# Altium schematic symbol library alientek_sch_lib.SchLib: 379 symbols (part 3 of 3)
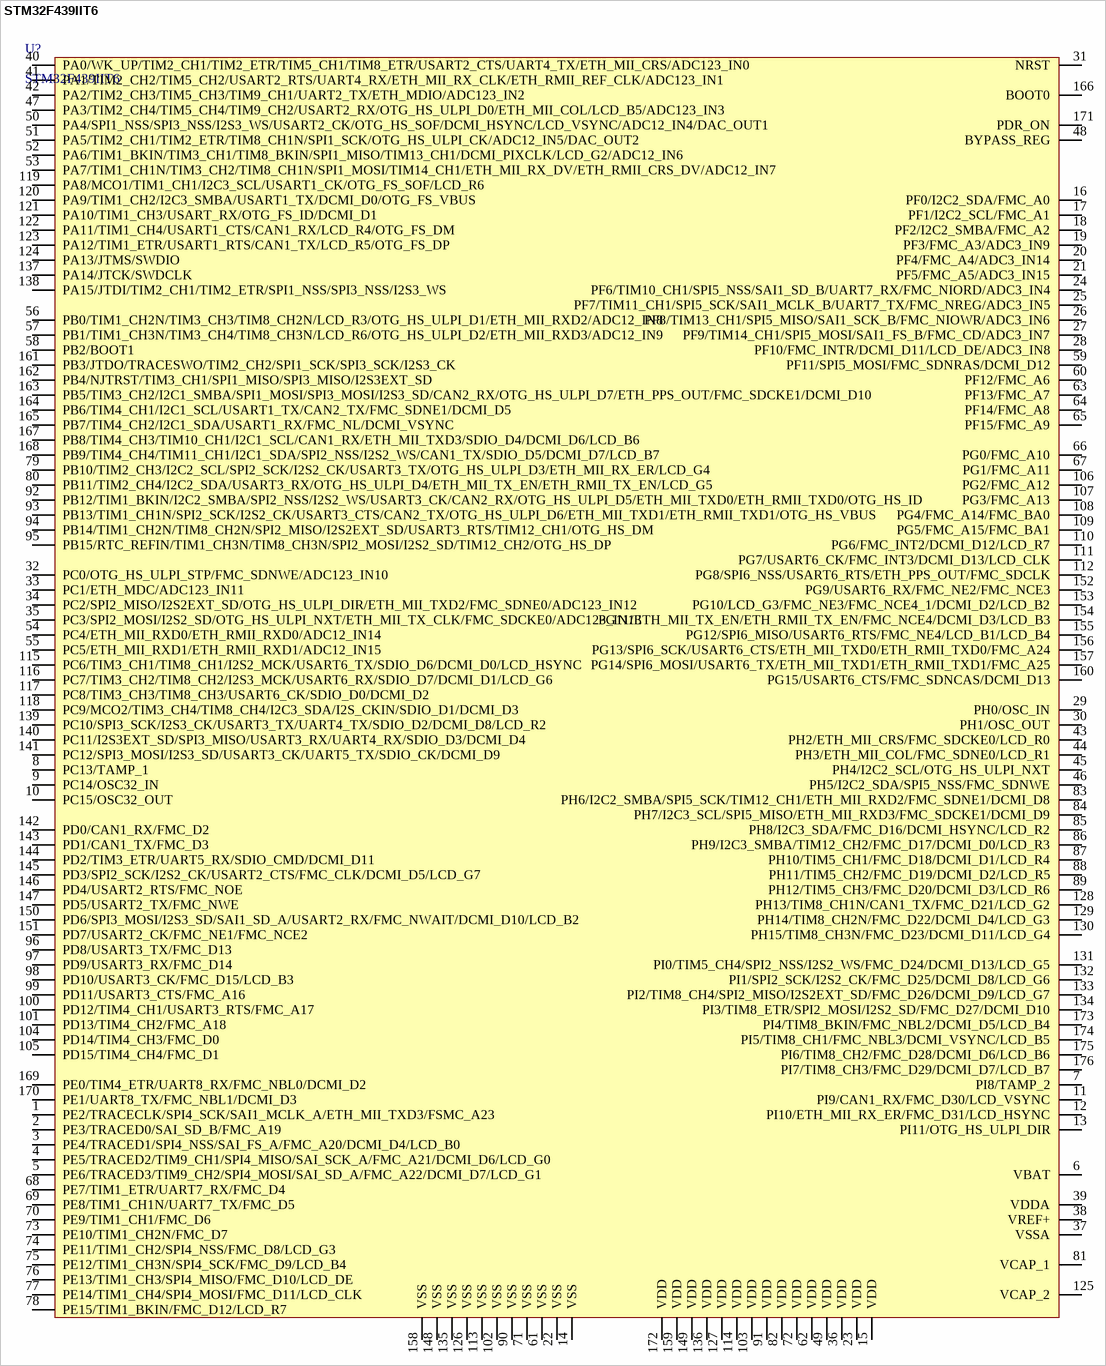
[diagram p22: symbol STM32F439IIT6]

## STM32F439IIT6
designator U?
footprint LQFP176 (TSQFP, 176-Leads, Body 26.1x26.1mm (max), Pitch 0.50mm, IPC Medium Density)
pins: 1 PE2/TRACECLK/SPI4_SCK/SAI1_MCLK_A/ETH_MII_TXD3/FSMC_A23, 2 PE3/TRACED0/SAI_SD_B/FMC_A19, 3 PE4/TRACED1/SPI4_NSS/SAI_FS_A/FMC_A20/DCMI_D4/LCD_B0, 4 PE5/TRACED2/TIM9_CH1/SPI4_MISO/SAI_SCK_A/FMC_A21/DCMI_D6/LCD_G0, 5 PE6/TRACED3/TIM9_CH2/SPI4_MOSI/SAI_SD_A/FMC_A22/DCMI_D7/LCD_G1, 6 VBAT, 7 PI8/TAMP_2, 8 PC13/TAMP_1, 9 PC14/OSC32_IN, 10 PC15/OSC32_OUT, 11 PI9/CAN1_RX/FMC_D30/LCD_VSYNC, 12 PI10/ETH_MII_RX_ER/FMC_D31/LCD_HSYNC, 13 PI11/OTG_HS_ULPI_DIR, 14 VSS, 15 VDD, 16 PF0/I2C2_SDA/FMC_A0, 17 PF1/I2C2_SCL/FMC_A1, 18 PF2/I2C2_SMBA/FMC_A2, 19 PF3/FMC_A3/ADC3_IN9, 20 PF4/FMC_A4/ADC3_IN14, 21 PF5/FMC_A5/ADC3_IN15, 22 VSS, 23 VDD, 24 PF6/TIM10_CH1/SPI5_NSS/SAI1_SD_B/UART7_RX/FMC_NIORD/ADC3_IN4, 25 PF7/TIM11_CH1/SPI5_SCK/SAI1_MCLK_B/UART7_TX/FMC_NREG/ADC3_IN5, 26 PF8/TIM13_CH1/SPI5_MISO/SAI1_SCK_B/FMC_NIOWR/ADC3_IN6, 27 PF9/TIM14_CH1/SPI5_MOSI/SAI1_FS_B/FMC_CD/ADC3_IN7, 28 PF10/FMC_INTR/DCMI_D11/LCD_DE/ADC3_IN8, 29 PH0/OSC_IN, 30 PH1/OSC_OUT, 31 NRST, 32 PC0/OTG_HS_ULPI_STP/FMC_SDNWE/ADC123_IN10, 33 PC1/ETH_MDC/ADC123_IN11, 34 PC2/SPI2_MISO/I2S2EXT_SD/OTG_HS_ULPI_DIR/ETH_MII_TXD2/FMC_SDNE0/ADC123_IN12, 35 PC3/SPI2_MOSI/I2S2_SD/OTG_HS_ULPI_NXT/ETH_MII_TX_CLK/FMC_SDCKE0/ADC123_IN13, 36 VDD, 37 VSSA, 38 VREF+, 39 VDDA, 40 PA0/WK_UP/TIM2_CH1/TIM2_ETR/TIM5_CH1/TIM8_ETR/USART2_CTS/UART4_TX/ETH_MII_CRS/ADC123_IN0, 41 PA1/TIM2_CH2/TIM5_CH2/USART2_RTS/UART4_RX/ETH_MII_RX_CLK/ETH_RMII_REF_CLK/ADC123_IN1, 42 PA2/TIM2_CH3/TIM5_CH3/TIM9_CH1/UART2_TX/ETH_MDIO/ADC123_IN2, 43 PH2/ETH_MII_CRS/FMC_SDCKE0/LCD_R0, 44 PH3/ETH_MII_COL/FMC_SDNE0/LCD_R1, 45 PH4/I2C2_SCL/OTG_HS_ULPI_NXT, 46 PH5/I2C2_SDA/SPI5_NSS/FMC_SDNWE, 47 PA3/TIM2_CH4/TIM5_CH4/TIM9_CH2/USART2_RX/OTG_HS_ULPI_D0/ETH_MII_COL/LCD_B5/ADC123_IN3, 48 BYPASS_REG, 49 VDD, 50 PA4/SPI1_NSS/SPI3_NSS/I2S3_WS/USART2_CK/OTG_HS_SOF/DCMI_HSYNC/LCD_VSYNC/ADC12_IN4/DAC_OUT1, 51 PA5/TIM2_CH1/TIM2_ETR/TIM8_CH1N/SPI1_SCK/OTG_HS_ULPI_CK/ADC12_IN5/DAC_OUT2, 52 PA6/TIM1_BKIN/TIM3_CH1/TIM8_BKIN/SPI1_MISO/TIM13_CH1/DCMI_PIXCLK/LCD_G2/ADC12_IN6, 53 PA7/TIM1_CH1N/TIM3_CH2/TIM8_CH1N/SPI1_MOSI/TIM14_CH1/ETH_MII_RX_DV/ETH_RMII_CRS_DV/ADC12_IN7, 54 PC4/ETH_MII_RXD0/ETH_RMII_RXD0/ADC12_IN14, 55 PC5/ETH_MII_RXD1/ETH_RMII_RXD1/ADC12_IN15, 56 PB0/TIM1_CH2N/TIM3_CH3/TIM8_CH2N/LCD_R3/OTG_HS_ULPI_D1/ETH_MII_RXD2/ADC12_IN8, 57 PB1/TIM1_CH3N/TIM3_CH4/TIM8_CH3N/LCD_R6/OTG_HS_ULPI_D2/ETH_MII_RXD3/ADC12_IN9, 58 PB2/BOOT1, 59 PF11/SPI5_MOSI/FMC_SDNRAS/DCMI_D12, 60 PF12/FMC_A6, 61 VSS, 62 VDD, 63 PF13/FMC_A7, 64 PF14/FMC_A8, 65 PF15/FMC_A9, 66 PG0/FMC_A10, 67 PG1/FMC_A11, 68 PE7/TIM1_ETR/UART7_RX/FMC_D4, 69 PE8/TIM1_CH1N/UART7_TX/FMC_D5, 70 PE9/TIM1_CH1/FMC_D6, 71 VSS, 72 VDD, 73 PE10/TIM1_CH2N/FMC_D7, 74 PE11/TIM1_CH2/SPI4_NSS/FMC_D8/LCD_G3, 75 PE12/TIM1_CH3N/SPI4_SCK/FMC_D9/LCD_B4, 76 PE13/TIM1_CH3/SPI4_MISO/FMC_D10/LCD_DE, 77 PE14/TIM1_CH4/SPI4_MOSI/FMC_D11/LCD_CLK, 78 PE15/TIM1_BKIN/FMC_D12/LCD_R7, 79 PB10/TIM2_CH3/I2C2_SCL/SPI2_SCK/I2S2_CK/USART3_TX/OTG_HS_ULPI_D3/ETH_MII_RX_ER/LCD_G4, 80 PB11/TIM2_CH4/I2C2_SDA/USART3_RX/OTG_HS_ULPI_D4/ETH_MII_TX_EN/ETH_RMII_TX_EN/LCD_G5, 81 VCAP_1, 82 VDD, 83 PH6/I2C2_SMBA/SPI5_SCK/TIM12_CH1/ETH_MII_RXD2/FMC_SDNE1/DCMI_D8, 84 PH7/I2C3_SCL/SPI5_MISO/ETH_MII_RXD3/FMC_SDCKE1/DCMI_D9, 85 PH8/I2C3_SDA/FMC_D16/DCMI_HSYNC/LCD_R2, 86 PH9/I2C3_SMBA/TIM12_CH2/FMC_D17/DCMI_D0/LCD_R3, 87 PH10/TIM5_CH1/FMC_D18/DCMI_D1/LCD_R4, 88 PH11/TIM5_CH2/FMC_D19/DCMI_D2/LCD_R5, 89 PH12/TIM5_CH3/FMC_D20/DCMI_D3/LCD_R6, 90 VSS, 91 VDD, 92 PB12/TIM1_BKIN/I2C2_SMBA/SPI2_NSS/I2S2_WS/USART3_CK/CAN2_RX/OTG_HS_ULPI_D5/ETH_MII_TXD0/ETH_RMII_TXD0/OTG_HS_ID, 93 PB13/TIM1_CH1N/SPI2_SCK/I2S2_CK/USART3_CTS/CAN2_TX/OTG_HS_ULPI_D6/ETH_MII_TXD1/ETH_RMII_TXD1/OTG_HS_VBUS, 94 PB14/TIM1_CH2N/TIM8_CH2N/SPI2_MISO/I2S2EXT_SD/USART3_RTS/TIM12_CH1/OTG_HS_DM, 95 PB15/RTC_REFIN/TIM1_CH3N/TIM8_CH3N/SPI2_MOSI/I2S2_SD/TIM12_CH2/OTG_HS_DP, 96 PD8/USART3_TX/FMC_D13, 97 PD9/USART3_RX/FMC_D14, 98 PD10/USART3_CK/FMC_D15/LCD_B3, 99 PD11/USART3_CTS/FMC_A16, 100 PD12/TIM4_CH1/USART3_RTS/FMC_A17, 101 PD13/TIM4_CH2/FMC_A18, 102 VSS, 103 VDD, 104 PD14/TIM4_CH3/FMC_D0, 105 PD15/TIM4_CH4/FMC_D1, 106 PG2/FMC_A12, 107 PG3/FMC_A13, 108 PG4/FMC_A14/FMC_BA0, 109 PG5/FMC_A15/FMC_BA1, 110 PG6/FMC_INT2/DCMI_D12/LCD_R7, 111 PG7/USART6_CK/FMC_INT3/DCMI_D13/LCD_CLK, 112 PG8/SPI6_NSS/USART6_RTS/ETH_PPS_OUT/FMC_SDCLK, 113 VSS, 114 VDD, 115 PC6/TIM3_CH1/TIM8_CH1/I2S2_MCK/USART6_TX/SDIO_D6/DCMI_D0/LCD_HSYNC, 116 PC7/TIM3_CH2/TIM8_CH2/I2S3_MCK/USART6_RX/SDIO_D7/DCMI_D1/LCD_G6, 117 PC8/TIM3_CH3/TIM8_CH3/USART6_CK/SDIO_D0/DCMI_D2, 118 PC9/MCO2/TIM3_CH4/TIM8_CH4/I2C3_SDA/I2S_CKIN/SDIO_D1/DCMI_D3, 119 PA8/MCO1/TIM1_CH1/I2C3_SCL/USART1_CK/OTG_FS_SOF/LCD_R6, 120 PA9/TIM1_CH2/I2C3_SMBA/USART1_TX/DCMI_D0/OTG_FS_VBUS, 121 PA10/TIM1_CH3/USART_RX/OTG_FS_ID/DCMI_D1, 122 PA11/TIM1_CH4/USART1_CTS/CAN1_RX/LCD_R4/OTG_FS_DM, 123 PA12/TIM1_ETR/USART1_RTS/CAN1_TX/LCD_R5/OTG_FS_DP, 124 PA13/JTMS/SWDIO, 125 VCAP_2, 126 VSS, 127 VDD, 128 PH13/TIM8_CH1N/CAN1_TX/FMC_D21/LCD_G2, 129 PH14/TIM8_CH2N/FMC_D22/DCMI_D4/LCD_G3, 130 PH15/TIM8_CH3N/FMC_D23/DCMI_D11/LCD_G4, 131 PI0/TIM5_CH4/SPI2_NSS/I2S2_WS/FMC_D24/DCMI_D13/LCD_G5, 132 PI1/SPI2_SCK/I2S2_CK/FMC_D25/DCMI_D8/LCD_G6, 133 PI2/TIM8_CH4/SPI2_MISO/I2S2EXT_SD/FMC_D26/DCMI_D9/LCD_G7, 134 PI3/TIM8_ETR/SPI2_MOSI/I2S2_SD/FMC_D27/DCMI_D10, 135 VSS, 136 VDD, 137 PA14/JTCK/SWDCLK, 138 PA15/JTDI/TIM2_CH1/TIM2_ETR/SPI1_NSS/SPI3_NSS/I2S3_WS, 139 PC10/SPI3_SCK/I2S3_CK/USART3_TX/UART4_TX/SDIO_D2/DCMI_D8/LCD_R2, 140 PC11/I2S3EXT_SD/SPI3_MISO/USART3_RX/UART4_RX/SDIO_D3/DCMI_D4, 141 PC12/SPI3_MOSI/I2S3_SD/USART3_CK/UART5_TX/SDIO_CK/DCMI_D9, 142 PD0/CAN1_RX/FMC_D2, 143 PD1/CAN1_TX/FMC_D3, 144 PD2/TIM3_ETR/UART5_RX/SDIO_CMD/DCMI_D11, 145 PD3/SPI2_SCK/I2S2_CK/USART2_CTS/FMC_CLK/DCMI_D5/LCD_G7, 146 PD4/USART2_RTS/FMC_NOE, 147 PD5/USART2_TX/FMC_NWE, 148 VSS, 149 VDD, 150 PD6/SPI3_MOSI/I2S3_SD/SAI1_SD_A/USART2_RX/FMC_NWAIT/DCMI_D10/LCD_B2, 151 PD7/USART2_CK/FMC_NE1/FMC_NCE2, 152 PG9/USART6_RX/FMC_NE2/FMC_NCE3, 153 PG10/LCD_G3/FMC_NE3/FMC_NCE4_1/DCMI_D2/LCD_B2, 154 PG11/ETH_MII_TX_EN/ETH_RMII_TX_EN/FMC_NCE4/DCMI_D3/LCD_B3, 155 PG12/SPI6_MISO/USART6_RTS/FMC_NE4/LCD_B1/LCD_B4, 156 PG13/SPI6_SCK/USART6_CTS/ETH_MII_TXD0/ETH_RMII_TXD0/FMC_A24, 157 PG14/SPI6_MOSI/USART6_TX/ETH_MII_TXD1/ETH_RMII_TXD1/FMC_A25, 158 VSS, 159 VDD, 160 PG15/USART6_CTS/FMC_SDNCAS/DCMI_D13, 161 PB3/JTDO/TRACESWO/TIM2_CH2/SPI1_SCK/SPI3_SCK/I2S3_CK, 162 PB4/NJTRST/TIM3_CH1/SPI1_MISO/SPI3_MISO/I2S3EXT_SD, 163 PB5/TIM3_CH2/I2C1_SMBA/SPI1_MOSI/SPI3_MOSI/I2S3_SD/CAN2_RX/OTG_HS_ULPI_D7/ETH_PPS_OUT/FMC_SDCKE1/DCMI_D10, 164 PB6/TIM4_CH1/I2C1_SCL/USART1_TX/CAN2_TX/FMC_SDNE1/DCMI_D5, 165 PB7/TIM4_CH2/I2C1_SDA/USART1_RX/FMC_NL/DCMI_VSYNC, 166 BOOT0, 167 PB8/TIM4_CH3/TIM10_CH1/I2C1_SCL/CAN1_RX/ETH_MII_TXD3/SDIO_D4/DCMI_D6/LCD_B6, 168 PB9/TIM4_CH4/TIM11_CH1/I2C1_SDA/SPI2_NSS/I2S2_WS/CAN1_TX/SDIO_D5/DCMI_D7/LCD_B7, 169 PE0/TIM4_ETR/UART8_RX/FMC_NBL0/DCMI_D2, 170 PE1/UART8_TX/FMC_NBL1/DCMI_D3, 171 PDR_ON, 172 VDD, 173 PI4/TIM8_BKIN/FMC_NBL2/DCMI_D5/LCD_B4, 174 PI5/TIM8_CH1/FMC_NBL3/DCMI_VSYNC/LCD_B5, 175 PI6/TIM8_CH2/FMC_D28/DCMI_D6/LCD_B6, 176 PI7/TIM8_CH3/FMC_D29/DCMI_D7/LCD_B7

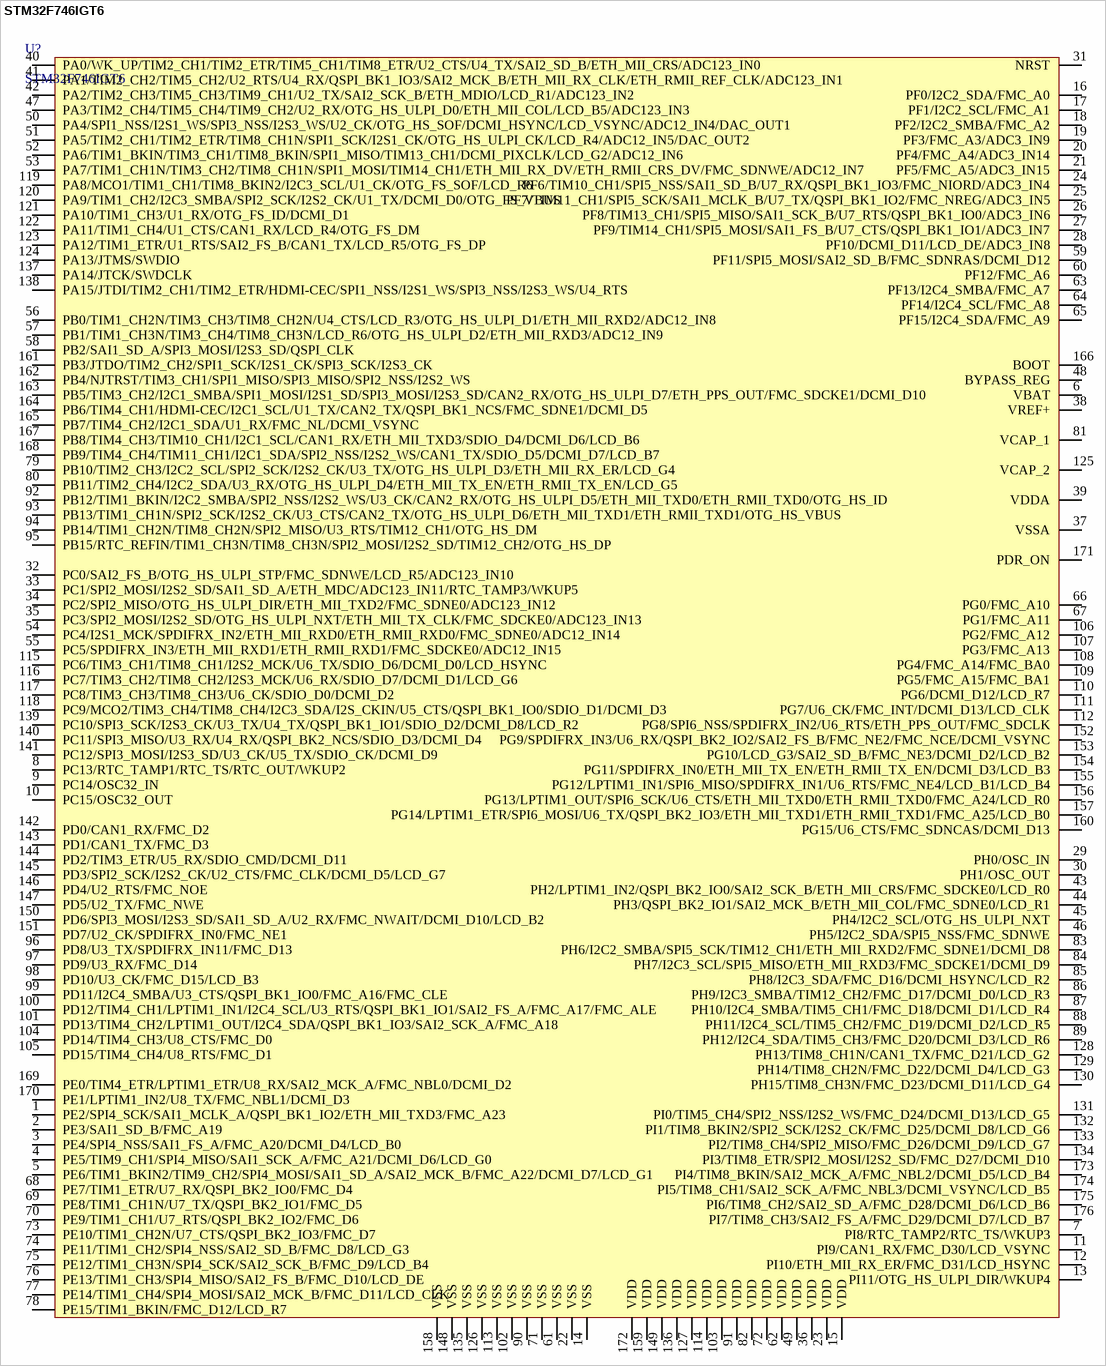
[diagram p16: symbol STM32F746IGT6]

## STM32F746IGT6
designator U?
footprint LQFP176 (TSQFP, 176-Leads, Body 26.1x26.1mm (max), Pitch 0.50mm, IPC Medium Density)
pins: 1 PE2/SPI4_SCK/SAI1_MCLK_A/QSPI_BK1_IO2/ETH_MII_TXD3/FMC_A23, 2 PE3/SAI1_SD_B/FMC_A19, 3 PE4/SPI4_NSS/SAI1_FS_A/FMC_A20/DCMI_D4/LCD_B0, 4 PE5/TIM9_CH1/SPI4_MISO/SAI1_SCK_A/FMC_A21/DCMI_D6/LCD_G0, 5 PE6/TIM1_BKIN2/TIM9_CH2/SPI4_MOSI/SAI1_SD_A/SAI2_MCK_B/FMC_A22/DCMI_D7/LCD_G1, 6 VBAT, 7 PI8/RTC_TAMP2/RTC_TS/WKUP3, 8 PC13/RTC_TAMP1/RTC_TS/RTC_OUT/WKUP2, 9 PC14/OSC32_IN, 10 PC15/OSC32_OUT, 11 PI9/CAN1_RX/FMC_D30/LCD_VSYNC, 12 PI10/ETH_MII_RX_ER/FMC_D31/LCD_HSYNC, 13 PI11/OTG_HS_ULPI_DIR/WKUP4, 14 VSS, 15 VDD, 16 PF0/I2C2_SDA/FMC_A0, 17 PF1/I2C2_SCL/FMC_A1, 18 PF2/I2C2_SMBA/FMC_A2, 19 PF3/FMC_A3/ADC3_IN9, 20 PF4/FMC_A4/ADC3_IN14, 21 PF5/FMC_A5/ADC3_IN15, 22 VSS, 23 VDD, 24 PF6/TIM10_CH1/SPI5_NSS/SAI1_SD_B/U7_RX/QSPI_BK1_IO3/FMC_NIORD/ADC3_IN4, 25 PF7/TIM11_CH1/SPI5_SCK/SAI1_MCLK_B/U7_TX/QSPI_BK1_IO2/FMC_NREG/ADC3_IN5, 26 PF8/TIM13_CH1/SPI5_MISO/SAI1_SCK_B/U7_RTS/QSPI_BK1_IO0/ADC3_IN6, 27 PF9/TIM14_CH1/SPI5_MOSI/SAI1_FS_B/U7_CTS/QSPI_BK1_IO1/ADC3_IN7, 28 PF10/DCMI_D11/LCD_DE/ADC3_IN8, 29 PH0/OSC_IN, 30 PH1/OSC_OUT, 31 NRST, 32 PC0/SAI2_FS_B/OTG_HS_ULPI_STP/FMC_SDNWE/LCD_R5/ADC123_IN10, 33 PC1/SPI2_MOSI/I2S2_SD/SAI1_SD_A/ETH_MDC/ADC123_IN11/RTC_TAMP3/WKUP5, 34 PC2/SPI2_MISO/OTG_HS_ULPI_DIR/ETH_MII_TXD2/FMC_SDNE0/ADC123_IN12, 35 PC3/SPI2_MOSI/I2S2_SD/OTG_HS_ULPI_NXT/ETH_MII_TX_CLK/FMC_SDCKE0/ADC123_IN13, 36 VDD, 37 VSSA, 38 VREF+, 39 VDDA, 40 PA0/WK_UP/TIM2_CH1/TIM2_ETR/TIM5_CH1/TIM8_ETR/U2_CTS/U4_TX/SAI2_SD_B/ETH_MII_CRS/ADC123_IN0, 41 PA1/TIM2_CH2/TIM5_CH2/U2_RTS/U4_RX/QSPI_BK1_IO3/SAI2_MCK_B/ETH_MII_RX_CLK/ETH_RMII_REF_CLK/ADC123_IN1, 42 PA2/TIM2_CH3/TIM5_CH3/TIM9_CH1/U2_TX/SAI2_SCK_B/ETH_MDIO/LCD_R1/ADC123_IN2, 43 PH2/LPTIM1_IN2/QSPI_BK2_IO0/SAI2_SCK_B/ETH_MII_CRS/FMC_SDCKE0/LCD_R0, 44 PH3/QSPI_BK2_IO1/SAI2_MCK_B/ETH_MII_COL/FMC_SDNE0/LCD_R1, 45 PH4/I2C2_SCL/OTG_HS_ULPI_NXT, 46 PH5/I2C2_SDA/SPI5_NSS/FMC_SDNWE, 47 PA3/TIM2_CH4/TIM5_CH4/TIM9_CH2/U2_RX/OTG_HS_ULPI_D0/ETH_MII_COL/LCD_B5/ADC123_IN3, 48 BYPASS_REG, 49 VDD, 50 PA4/SPI1_NSS/I2S1_WS/SPI3_NSS/I2S3_WS/U2_CK/OTG_HS_SOF/DCMI_HSYNC/LCD_VSYNC/ADC12_IN4/DAC_OUT1, 51 PA5/TIM2_CH1/TIM2_ETR/TIM8_CH1N/SPI1_SCK/I2S1_CK/OTG_HS_ULPI_CK/LCD_R4/ADC12_IN5/DAC_OUT2, 52 PA6/TIM1_BKIN/TIM3_CH1/TIM8_BKIN/SPI1_MISO/TIM13_CH1/DCMI_PIXCLK/LCD_G2/ADC12_IN6, 53 PA7/TIM1_CH1N/TIM3_CH2/TIM8_CH1N/SPI1_MOSI/TIM14_CH1/ETH_MII_RX_DV/ETH_RMII_CRS_DV/FMC_SDNWE/ADC12_IN7, 54 PC4/I2S1_MCK/SPDIFRX_IN2/ETH_MII_RXD0/ETH_RMII_RXD0/FMC_SDNE0/ADC12_IN14, 55 PC5/SPDIFRX_IN3/ETH_MII_RXD1/ETH_RMII_RXD1/FMC_SDCKE0/ADC12_IN15, 56 PB0/TIM1_CH2N/TIM3_CH3/TIM8_CH2N/U4_CTS/LCD_R3/OTG_HS_ULPI_D1/ETH_MII_RXD2/ADC12_IN8, 57 PB1/TIM1_CH3N/TIM3_CH4/TIM8_CH3N/LCD_R6/OTG_HS_ULPI_D2/ETH_MII_RXD3/ADC12_IN9, 58 PB2/SAI1_SD_A/SPI3_MOSI/I2S3_SD/QSPI_CLK, 59 PF11/SPI5_MOSI/SAI2_SD_B/FMC_SDNRAS/DCMI_D12, 60 PF12/FMC_A6, 61 VSS, 62 VDD, 63 PF13/I2C4_SMBA/FMC_A7, 64 PF14/I2C4_SCL/FMC_A8, 65 PF15/I2C4_SDA/FMC_A9, 66 PG0/FMC_A10, 67 PG1/FMC_A11, 68 PE7/TIM1_ETR/U7_RX/QSPI_BK2_IO0/FMC_D4, 69 PE8/TIM1_CH1N/U7_TX/QSPI_BK2_IO1/FMC_D5, 70 PE9/TIM1_CH1/U7_RTS/QSPI_BK2_IO2/FMC_D6, 71 VSS, 72 VDD, 73 PE10/TIM1_CH2N/U7_CTS/QSPI_BK2_IO3/FMC_D7, 74 PE11/TIM1_CH2/SPI4_NSS/SAI2_SD_B/FMC_D8/LCD_G3, 75 PE12/TIM1_CH3N/SPI4_SCK/SAI2_SCK_B/FMC_D9/LCD_B4, 76 PE13/TIM1_CH3/SPI4_MISO/SAI2_FS_B/FMC_D10/LCD_DE, 77 PE14/TIM1_CH4/SPI4_MOSI/SAI2_MCK_B/FMC_D11/LCD_CLK, 78 PE15/TIM1_BKIN/FMC_D12/LCD_R7, 79 PB10/TIM2_CH3/I2C2_SCL/SPI2_SCK/I2S2_CK/U3_TX/OTG_HS_ULPI_D3/ETH_MII_RX_ER/LCD_G4, 80 PB11/TIM2_CH4/I2C2_SDA/U3_RX/OTG_HS_ULPI_D4/ETH_MII_TX_EN/ETH_RMII_TX_EN/LCD_G5, 81 VCAP_1, 82 VDD, 83 PH6/I2C2_SMBA/SPI5_SCK/TIM12_CH1/ETH_MII_RXD2/FMC_SDNE1/DCMI_D8, 84 PH7/I2C3_SCL/SPI5_MISO/ETH_MII_RXD3/FMC_SDCKE1/DCMI_D9, 85 PH8/I2C3_SDA/FMC_D16/DCMI_HSYNC/LCD_R2, 86 PH9/I2C3_SMBA/TIM12_CH2/FMC_D17/DCMI_D0/LCD_R3, 87 PH10/I2C4_SMBA/TIM5_CH1/FMC_D18/DCMI_D1/LCD_R4, 88 PH11/I2C4_SCL/TIM5_CH2/FMC_D19/DCMI_D2/LCD_R5, 89 PH12/I2C4_SDA/TIM5_CH3/FMC_D20/DCMI_D3/LCD_R6, 90 VSS, 91 VDD, 92 PB12/TIM1_BKIN/I2C2_SMBA/SPI2_NSS/I2S2_WS/U3_CK/CAN2_RX/OTG_HS_ULPI_D5/ETH_MII_TXD0/ETH_RMII_TXD0/OTG_HS_ID, 93 PB13/TIM1_CH1N/SPI2_SCK/I2S2_CK/U3_CTS/CAN2_TX/OTG_HS_ULPI_D6/ETH_MII_TXD1/ETH_RMII_TXD1/OTG_HS_VBUS, 94 PB14/TIM1_CH2N/TIM8_CH2N/SPI2_MISO/U3_RTS/TIM12_CH1/OTG_HS_DM, 95 PB15/RTC_REFIN/TIM1_CH3N/TIM8_CH3N/SPI2_MOSI/I2S2_SD/TIM12_CH2/OTG_HS_DP, 96 PD8/U3_TX/SPDIFRX_IN11/FMC_D13, 97 PD9/U3_RX/FMC_D14, 98 PD10/U3_CK/FMC_D15/LCD_B3, 99 PD11/I2C4_SMBA/U3_CTS/QSPI_BK1_IO0/FMC_A16/FMC_CLE, 100 PD12/TIM4_CH1/LPTIM1_IN1/I2C4_SCL/U3_RTS/QSPI_BK1_IO1/SAI2_FS_A/FMC_A17/FMC_ALE, 101 PD13/TIM4_CH2/LPTIM1_OUT/I2C4_SDA/QSPI_BK1_IO3/SAI2_SCK_A/FMC_A18, 102 VSS, 103 VDD, 104 PD14/TIM4_CH3/U8_CTS/FMC_D0, 105 PD15/TIM4_CH4/U8_RTS/FMC_D1, 106 PG2/FMC_A12, 107 PG3/FMC_A13, 108 PG4/FMC_A14/FMC_BA0, 109 PG5/FMC_A15/FMC_BA1, 110 PG6/DCMI_D12/LCD_R7, 111 PG7/U6_CK/FMC_INT/DCMI_D13/LCD_CLK, 112 PG8/SPI6_NSS/SPDIFRX_IN2/U6_RTS/ETH_PPS_OUT/FMC_SDCLK, 113 VSS, 114 VDD, 115 PC6/TIM3_CH1/TIM8_CH1/I2S2_MCK/U6_TX/SDIO_D6/DCMI_D0/LCD_HSYNC, 116 PC7/TIM3_CH2/TIM8_CH2/I2S3_MCK/U6_RX/SDIO_D7/DCMI_D1/LCD_G6, 117 PC8/TIM3_CH3/TIM8_CH3/U6_CK/SDIO_D0/DCMI_D2, 118 PC9/MCO2/TIM3_CH4/TIM8_CH4/I2C3_SDA/I2S_CKIN/U5_CTS/QSPI_BK1_IO0/SDIO_D1/DCMI_D3, 119 PA8/MCO1/TIM1_CH1/TIM8_BKIN2/I2C3_SCL/U1_CK/OTG_FS_SOF/LCD_R6, 120 PA9/TIM1_CH2/I2C3_SMBA/SPI2_SCK/I2S2_CK/U1_TX/DCMI_D0/OTG_FS_VBUS, 121 PA10/TIM1_CH3/U1_RX/OTG_FS_ID/DCMI_D1, 122 PA11/TIM1_CH4/U1_CTS/CAN1_RX/LCD_R4/OTG_FS_DM, 123 PA12/TIM1_ETR/U1_RTS/SAI2_FS_B/CAN1_TX/LCD_R5/OTG_FS_DP, 124 PA13/JTMS/SWDIO, 125 VCAP_2, 126 VSS, 127 VDD, 128 PH13/TIM8_CH1N/CAN1_TX/FMC_D21/LCD_G2, 129 PH14/TIM8_CH2N/FMC_D22/DCMI_D4/LCD_G3, 130 PH15/TIM8_CH3N/FMC_D23/DCMI_D11/LCD_G4, 131 PI0/TIM5_CH4/SPI2_NSS/I2S2_WS/FMC_D24/DCMI_D13/LCD_G5, 132 PI1/TIM8_BKIN2/SPI2_SCK/I2S2_CK/FMC_D25/DCMI_D8/LCD_G6, 133 PI2/TIM8_CH4/SPI2_MISO/FMC_D26/DCMI_D9/LCD_G7, 134 PI3/TIM8_ETR/SPI2_MOSI/I2S2_SD/FMC_D27/DCMI_D10, 135 VSS, 136 VDD, 137 PA14/JTCK/SWDCLK, 138 PA15/JTDI/TIM2_CH1/TIM2_ETR/HDMI-CEC/SPI1_NSS/I2S1_WS/SPI3_NSS/I2S3_WS/U4_RTS, 139 PC10/SPI3_SCK/I2S3_CK/U3_TX/U4_TX/QSPI_BK1_IO1/SDIO_D2/DCMI_D8/LCD_R2, 140 PC11/SPI3_MISO/U3_RX/U4_RX/QSPI_BK2_NCS/SDIO_D3/DCMI_D4, 141 PC12/SPI3_MOSI/I2S3_SD/U3_CK/U5_TX/SDIO_CK/DCMI_D9, 142 PD0/CAN1_RX/FMC_D2, 143 PD1/CAN1_TX/FMC_D3, 144 PD2/TIM3_ETR/U5_RX/SDIO_CMD/DCMI_D11, 145 PD3/SPI2_SCK/I2S2_CK/U2_CTS/FMC_CLK/DCMI_D5/LCD_G7, 146 PD4/U2_RTS/FMC_NOE, 147 PD5/U2_TX/FMC_NWE, 148 VSS, 149 VDD, 150 PD6/SPI3_MOSI/I2S3_SD/SAI1_SD_A/U2_RX/FMC_NWAIT/DCMI_D10/LCD_B2, 151 PD7/U2_CK/SPDIFRX_IN0/FMC_NE1, 152 PG9/SPDIFRX_IN3/U6_RX/QSPI_BK2_IO2/SAI2_FS_B/FMC_NE2/FMC_NCE/DCMI_VSYNC, 153 PG10/LCD_G3/SAI2_SD_B/FMC_NE3/DCMI_D2/LCD_B2, 154 PG11/SPDIFRX_IN0/ETH_MII_TX_EN/ETH_RMII_TX_EN/DCMI_D3/LCD_B3, 155 PG12/LPTIM1_IN1/SPI6_MISO/SPDIFRX_IN1/U6_RTS/FMC_NE4/LCD_B1/LCD_B4, 156 PG13/LPTIM1_OUT/SPI6_SCK/U6_CTS/ETH_MII_TXD0/ETH_RMII_TXD0/FMC_A24/LCD_R0, 157 PG14/LPTIM1_ETR/SPI6_MOSI/U6_TX/QSPI_BK2_IO3/ETH_MII_TXD1/ETH_RMII_TXD1/FMC_A25/LCD_B0, 158 VSS, 159 VDD, 160 PG15/U6_CTS/FMC_SDNCAS/DCMI_D13, 161 PB3/JTDO/TIM2_CH2/SPI1_SCK/I2S1_CK/SPI3_SCK/I2S3_CK, 162 PB4/NJTRST/TIM3_CH1/SPI1_MISO/SPI3_MISO/SPI2_NSS/I2S2_WS, 163 PB5/TIM3_CH2/I2C1_SMBA/SPI1_MOSI/I2S1_SD/SPI3_MOSI/I2S3_SD/CAN2_RX/OTG_HS_ULPI_D7/ETH_PPS_OUT/FMC_SDCKE1/DCMI_D10, 164 PB6/TIM4_CH1/HDMI-CEC/I2C1_SCL/U1_TX/CAN2_TX/QSPI_BK1_NCS/FMC_SDNE1/DCMI_D5, 165 PB7/TIM4_CH2/I2C1_SDA/U1_RX/FMC_NL/DCMI_VSYNC, 166 BOOT, 167 PB8/TIM4_CH3/TIM10_CH1/I2C1_SCL/CAN1_RX/ETH_MII_TXD3/SDIO_D4/DCMI_D6/LCD_B6, 168 PB9/TIM4_CH4/TIM11_CH1/I2C1_SDA/SPI2_NSS/I2S2_WS/CAN1_TX/SDIO_D5/DCMI_D7/LCD_B7, 169 PE0/TIM4_ETR/LPTIM1_ETR/U8_RX/SAI2_MCK_A/FMC_NBL0/DCMI_D2, 170 PE1/LPTIM1_IN2/U8_TX/FMC_NBL1/DCMI_D3, 171 PDR_ON, 172 VDD, 173 PI4/TIM8_BKIN/SAI2_MCK_A/FMC_NBL2/DCMI_D5/LCD_B4, 174 PI5/TIM8_CH1/SAI2_SCK_A/FMC_NBL3/DCMI_VSYNC/LCD_B5, 175 PI6/TIM8_CH2/SAI2_SD_A/FMC_D28/DCMI_D6/LCD_B6, 176 PI7/TIM8_CH3/SAI2_FS_A/FMC_D29/DCMI_D7/LCD_B7

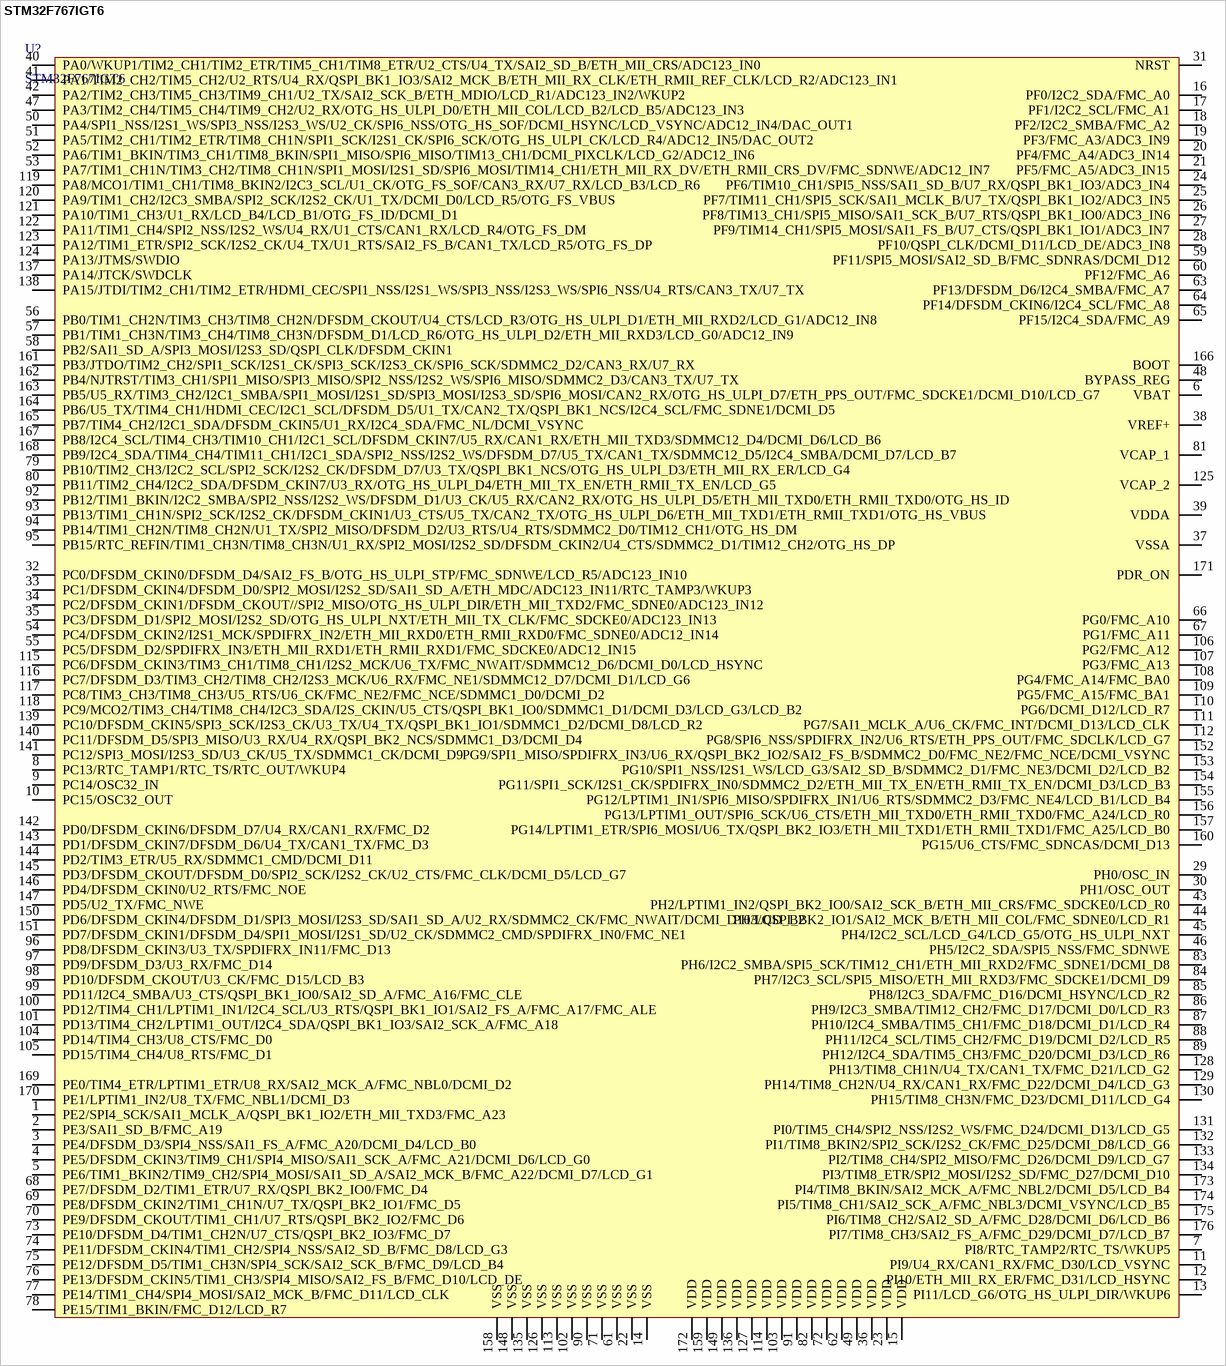
[diagram p17: symbol STM32F767IGT6]

## STM32F767IGT6
designator U?
footprint LQFP176 (TSQFP, 176-Leads, Body 26.1x26.1mm (max), Pitch 0.50mm, IPC Medium Density)
pins: 1 PE2/SPI4_SCK/SAI1_MCLK_A/QSPI_BK1_IO2/ETH_MII_TXD3/FMC_A23, 2 PE3/SAI1_SD_B/FMC_A19, 3 PE4/DFSDM_D3/SPI4_NSS/SAI1_FS_A/FMC_A20/DCMI_D4/LCD_B0, 4 PE5/DFSDM_CKIN3/TIM9_CH1/SPI4_MISO/SAI1_SCK_A/FMC_A21/DCMI_D6/LCD_G0, 5 PE6/TIM1_BKIN2/TIM9_CH2/SPI4_MOSI/SAI1_SD_A/SAI2_MCK_B/FMC_A22/DCMI_D7/LCD_G1, 6 VBAT, 7 PI8/RTC_TAMP2/RTC_TS/WKUP5, 8 PC13/RTC_TAMP1/RTC_TS/RTC_OUT/WKUP4, 9 PC14/OSC32_IN, 10 PC15/OSC32_OUT, 11 PI9/U4_RX/CAN1_RX/FMC_D30/LCD_VSYNC, 12 PI10/ETH_MII_RX_ER/FMC_D31/LCD_HSYNC, 13 PI11/LCD_G6/OTG_HS_ULPI_DIR/WKUP6, 14 VSS, 15 VDD, 16 PF0/I2C2_SDA/FMC_A0, 17 PF1/I2C2_SCL/FMC_A1, 18 PF2/I2C2_SMBA/FMC_A2, 19 PF3/FMC_A3/ADC3_IN9, 20 PF4/FMC_A4/ADC3_IN14, 21 PF5/FMC_A5/ADC3_IN15, 22 VSS, 23 VDD, 24 PF6/TIM10_CH1/SPI5_NSS/SAI1_SD_B/U7_RX/QSPI_BK1_IO3/ADC3_IN4, 25 PF7/TIM11_CH1/SPI5_SCK/SAI1_MCLK_B/U7_TX/QSPI_BK1_IO2/ADC3_IN5, 26 PF8/TIM13_CH1/SPI5_MISO/SAI1_SCK_B/U7_RTS/QSPI_BK1_IO0/ADC3_IN6, 27 PF9/TIM14_CH1/SPI5_MOSI/SAI1_FS_B/U7_CTS/QSPI_BK1_IO1/ADC3_IN7, 28 PF10/QSPI_CLK/DCMI_D11/LCD_DE/ADC3_IN8, 29 PH0/OSC_IN, 30 PH1/OSC_OUT, 31 NRST, 32 PC0/DFSDM_CKIN0/DFSDM_D4/SAI2_FS_B/OTG_HS_ULPI_STP/FMC_SDNWE/LCD_R5/ADC123_IN10, 33 PC1/DFSDM_CKIN4/DFSDM_D0/SPI2_MOSI/I2S2_SD/SAI1_SD_A/ETH_MDC/ADC123_IN11/RTC_TAMP3/WKUP3, 34 PC2/DFSDM_CKIN1/DFSDM_CKOUT//SPI2_MISO/OTG_HS_ULPI_DIR/ETH_MII_TXD2/FMC_SDNE0/ADC123_IN12, 35 PC3/DFSDM_D1/SPI2_MOSI/I2S2_SD/OTG_HS_ULPI_NXT/ETH_MII_TX_CLK/FMC_SDCKE0/ADC123_IN13, 36 VDD, 37 VSSA, 38 VREF+, 39 VDDA, 40 PA0/WKUP1/TIM2_CH1/TIM2_ETR/TIM5_CH1/TIM8_ETR/U2_CTS/U4_TX/SAI2_SD_B/ETH_MII_CRS/ADC123_IN0, 41 PA1/TIM2_CH2/TIM5_CH2/U2_RTS/U4_RX/QSPI_BK1_IO3/SAI2_MCK_B/ETH_MII_RX_CLK/ETH_RMII_REF_CLK/LCD_R2/ADC123_IN1, 42 PA2/TIM2_CH3/TIM5_CH3/TIM9_CH1/U2_TX/SAI2_SCK_B/ETH_MDIO/LCD_R1/ADC123_IN2/WKUP2, 43 PH2/LPTIM1_IN2/QSPI_BK2_IO0/SAI2_SCK_B/ETH_MII_CRS/FMC_SDCKE0/LCD_R0, 44 PH3/QSPI_BK2_IO1/SAI2_MCK_B/ETH_MII_COL/FMC_SDNE0/LCD_R1, 45 PH4/I2C2_SCL/LCD_G4/LCD_G5/OTG_HS_ULPI_NXT, 46 PH5/I2C2_SDA/SPI5_NSS/FMC_SDNWE, 47 PA3/TIM2_CH4/TIM5_CH4/TIM9_CH2/U2_RX/OTG_HS_ULPI_D0/ETH_MII_COL/LCD_B2/LCD_B5/ADC123_IN3, 48 BYPASS_REG, 49 VDD, 50 PA4/SPI1_NSS/I2S1_WS/SPI3_NSS/I2S3_WS/U2_CK/SPI6_NSS/OTG_HS_SOF/DCMI_HSYNC/LCD_VSYNC/ADC12_IN4/DAC_OUT1, 51 PA5/TIM2_CH1/TIM2_ETR/TIM8_CH1N/SPI1_SCK/I2S1_CK/SPI6_SCK/OTG_HS_ULPI_CK/LCD_R4/ADC12_IN5/DAC_OUT2, 52 PA6/TIM1_BKIN/TIM3_CH1/TIM8_BKIN/SPI1_MISO/SPI6_MISO/TIM13_CH1/DCMI_PIXCLK/LCD_G2/ADC12_IN6, 53 PA7/TIM1_CH1N/TIM3_CH2/TIM8_CH1N/SPI1_MOSI/I2S1_SD/SPI6_MOSI/TIM14_CH1/ETH_MII_RX_DV/ETH_RMII_CRS_DV/FMC_SDNWE/ADC12_IN7, 54 PC4/DFSDM_CKIN2/I2S1_MCK/SPDIFRX_IN2/ETH_MII_RXD0/ETH_RMII_RXD0/FMC_SDNE0/ADC12_IN14, 55 PC5/DFSDM_D2/SPDIFRX_IN3/ETH_MII_RXD1/ETH_RMII_RXD1/FMC_SDCKE0/ADC12_IN15, 56 PB0/TIM1_CH2N/TIM3_CH3/TIM8_CH2N/DFSDM_CKOUT/U4_CTS/LCD_R3/OTG_HS_ULPI_D1/ETH_MII_RXD2/LCD_G1/ADC12_IN8, 57 PB1/TIM1_CH3N/TIM3_CH4/TIM8_CH3N/DFSDM_D1/LCD_R6/OTG_HS_ULPI_D2/ETH_MII_RXD3/LCD_G0/ADC12_IN9, 58 PB2/SAI1_SD_A/SPI3_MOSI/I2S3_SD/QSPI_CLK/DFSDM_CKIN1, 59 PF11/SPI5_MOSI/SAI2_SD_B/FMC_SDNRAS/DCMI_D12, 60 PF12/FMC_A6, 61 VSS, 62 VDD, 63 PF13/DFSDM_D6/I2C4_SMBA/FMC_A7, 64 PF14/DFSDM_CKIN6/I2C4_SCL/FMC_A8, 65 PF15/I2C4_SDA/FMC_A9, 66 PG0/FMC_A10, 67 PG1/FMC_A11, 68 PE7/DFSDM_D2/TIM1_ETR/U7_RX/QSPI_BK2_IO0/FMC_D4, 69 PE8/DFSDM_CKIN2/TIM1_CH1N/U7_TX/QSPI_BK2_IO1/FMC_D5, 70 PE9/DFSDM_CKOUT/TIM1_CH1/U7_RTS/QSPI_BK2_IO2/FMC_D6, 71 VSS, 72 VDD, 73 PE10/DFSDM_D4/TIM1_CH2N/U7_CTS/QSPI_BK2_IO3/FMC_D7, 74 PE11/DFSDM_CKIN4/TIM1_CH2/SPI4_NSS/SAI2_SD_B/FMC_D8/LCD_G3, 75 PE12/DFSDM_D5/TIM1_CH3N/SPI4_SCK/SAI2_SCK_B/FMC_D9/LCD_B4, 76 PE13/DFSDM_CKIN5/TIM1_CH3/SPI4_MISO/SAI2_FS_B/FMC_D10/LCD_DE, 77 PE14/TIM1_CH4/SPI4_MOSI/SAI2_MCK_B/FMC_D11/LCD_CLK, 78 PE15/TIM1_BKIN/FMC_D12/LCD_R7, 79 PB10/TIM2_CH3/I2C2_SCL/SPI2_SCK/I2S2_CK/DFSDM_D7/U3_TX/QSPI_BK1_NCS/OTG_HS_ULPI_D3/ETH_MII_RX_ER/LCD_G4, 80 PB11/TIM2_CH4/I2C2_SDA/DFSDM_CKIN7/U3_RX/OTG_HS_ULPI_D4/ETH_MII_TX_EN/ETH_RMII_TX_EN/LCD_G5, 81 VCAP_1, 82 VDD, 83 PH6/I2C2_SMBA/SPI5_SCK/TIM12_CH1/ETH_MII_RXD2/FMC_SDNE1/DCMI_D8, 84 PH7/I2C3_SCL/SPI5_MISO/ETH_MII_RXD3/FMC_SDCKE1/DCMI_D9, 85 PH8/I2C3_SDA/FMC_D16/DCMI_HSYNC/LCD_R2, 86 PH9/I2C3_SMBA/TIM12_CH2/FMC_D17/DCMI_D0/LCD_R3, 87 PH10/I2C4_SMBA/TIM5_CH1/FMC_D18/DCMI_D1/LCD_R4, 88 PH11/I2C4_SCL/TIM5_CH2/FMC_D19/DCMI_D2/LCD_R5, 89 PH12/I2C4_SDA/TIM5_CH3/FMC_D20/DCMI_D3/LCD_R6, 90 VSS, 91 VDD, 92 PB12/TIM1_BKIN/I2C2_SMBA/SPI2_NSS/I2S2_WS/DFSDM_D1/U3_CK/U5_RX/CAN2_RX/OTG_HS_ULPI_D5/ETH_MII_TXD0/ETH_RMII_TXD0/OTG_HS_ID, 93 PB13/TIM1_CH1N/SPI2_SCK/I2S2_CK/DFSDM_CKIN1/U3_CTS/U5_TX/CAN2_TX/OTG_HS_ULPI_D6/ETH_MII_TXD1/ETH_RMII_TXD1/OTG_HS_VBUS, 94 PB14/TIM1_CH2N/TIM8_CH2N/U1_TX/SPI2_MISO/DFSDM_D2/U3_RTS/U4_RTS/SDMMC2_D0/TIM12_CH1/OTG_HS_DM, 95 PB15/RTC_REFIN/TIM1_CH3N/TIM8_CH3N/U1_RX/SPI2_MOSI/I2S2_SD/DFSDM_CKIN2/U4_CTS/SDMMC2_D1/TIM12_CH2/OTG_HS_DP, 96 PD8/DFSDM_CKIN3/U3_TX/SPDIFRX_IN11/FMC_D13, 97 PD9/DFSDM_D3/U3_RX/FMC_D14, 98 PD10/DFSDM_CKOUT/U3_CK/FMC_D15/LCD_B3, 99 PD11/I2C4_SMBA/U3_CTS/QSPI_BK1_IO0/SAI2_SD_A/FMC_A16/FMC_CLE, 100 PD12/TIM4_CH1/LPTIM1_IN1/I2C4_SCL/U3_RTS/QSPI_BK1_IO1/SAI2_FS_A/FMC_A17/FMC_ALE, 101 PD13/TIM4_CH2/LPTIM1_OUT/I2C4_SDA/QSPI_BK1_IO3/SAI2_SCK_A/FMC_A18, 102 VSS, 103 VDD, 104 PD14/TIM4_CH3/U8_CTS/FMC_D0, 105 PD15/TIM4_CH4/U8_RTS/FMC_D1, 106 PG2/FMC_A12, 107 PG3/FMC_A13, 108 PG4/FMC_A14/FMC_BA0, 109 PG5/FMC_A15/FMC_BA1, 110 PG6/DCMI_D12/LCD_R7, 111 PG7/SAI1_MCLK_A/U6_CK/FMC_INT/DCMI_D13/LCD_CLK, 112 PG8/SPI6_NSS/SPDIFRX_IN2/U6_RTS/ETH_PPS_OUT/FMC_SDCLK/LCD_G7, 113 VSS, 114 VDD, 115 PC6/DFSDM_CKIN3/TIM3_CH1/TIM8_CH1/I2S2_MCK/U6_TX/FMC_NWAIT/SDMMC12_D6/DCMI_D0/LCD_HSYNC, 116 PC7/DFSDM_D3/TIM3_CH2/TIM8_CH2/I2S3_MCK/U6_RX/FMC_NE1/SDMMC12_D7/DCMI_D1/LCD_G6, 117 PC8/TIM3_CH3/TIM8_CH3/U5_RTS/U6_CK/FMC_NE2/FMC_NCE/SDMMC1_D0/DCMI_D2, 118 PC9/MCO2/TIM3_CH4/TIM8_CH4/I2C3_SDA/I2S_CKIN/U5_CTS/QSPI_BK1_IO0/SDMMC1_D1/DCMI_D3/LCD_G3/LCD_B2, 119 PA8/MCO1/TIM1_CH1/TIM8_BKIN2/I2C3_SCL/U1_CK/OTG_FS_SOF/CAN3_RX/U7_RX/LCD_B3/LCD_R6, 120 PA9/TIM1_CH2/I2C3_SMBA/SPI2_SCK/I2S2_CK/U1_TX/DCMI_D0/LCD_R5/OTG_FS_VBUS, 121 PA10/TIM1_CH3/U1_RX/LCD_B4/LCD_B1/OTG_FS_ID/DCMI_D1, 122 PA11/TIM1_CH4/SPI2_NSS/I2S2_WS/U4_RX/U1_CTS/CAN1_RX/LCD_R4/OTG_FS_DM, 123 PA12/TIM1_ETR/SPI2_SCK/I2S2_CK/U4_TX/U1_RTS/SAI2_FS_B/CAN1_TX/LCD_R5/OTG_FS_DP, 124 PA13/JTMS/SWDIO, 125 VCAP_2, 126 VSS, 127 VDD, 128 PH13/TIM8_CH1N/U4_TX/CAN1_TX/FMC_D21/LCD_G2, 129 PH14/TIM8_CH2N/U4_RX/CAN1_RX/FMC_D22/DCMI_D4/LCD_G3, 130 PH15/TIM8_CH3N/FMC_D23/DCMI_D11/LCD_G4, 131 PI0/TIM5_CH4/SPI2_NSS/I2S2_WS/FMC_D24/DCMI_D13/LCD_G5, 132 PI1/TIM8_BKIN2/SPI2_SCK/I2S2_CK/FMC_D25/DCMI_D8/LCD_G6, 133 PI2/TIM8_CH4/SPI2_MISO/FMC_D26/DCMI_D9/LCD_G7, 134 PI3/TIM8_ETR/SPI2_MOSI/I2S2_SD/FMC_D27/DCMI_D10, 135 VSS, 136 VDD, 137 PA14/JTCK/SWDCLK, 138 PA15/JTDI/TIM2_CH1/TIM2_ETR/HDMI_CEC/SPI1_NSS/I2S1_WS/SPI3_NSS/I2S3_WS/SPI6_NSS/U4_RTS/CAN3_TX/U7_TX, 139 PC10/DFSDM_CKIN5/SPI3_SCK/I2S3_CK/U3_TX/U4_TX/QSPI_BK1_IO1/SDMMC1_D2/DCMI_D8/LCD_R2, 140 PC11/DFSDM_D5/SPI3_MISO/U3_RX/U4_RX/QSPI_BK2_NCS/SDMMC1_D3/DCMI_D4, 141 PC12/SPI3_MOSI/I2S3_SD/U3_CK/U5_TX/SDMMC1_CK/DCMI_D9, 142 PD0/DFSDM_CKIN6/DFSDM_D7/U4_RX/CAN1_RX/FMC_D2, 143 PD1/DFSDM_CKIN7/DFSDM_D6/U4_TX/CAN1_TX/FMC_D3, 144 PD2/TIM3_ETR/U5_RX/SDMMC1_CMD/DCMI_D11, 145 PD3/DFSDM_CKOUT/DFSDM_D0/SPI2_SCK/I2S2_CK/U2_CTS/FMC_CLK/DCMI_D5/LCD_G7, 146 PD4/DFSDM_CKIN0/U2_RTS/FMC_NOE, 147 PD5/U2_TX/FMC_NWE, 148 VSS, 149 VDD, 150 PD6/DFSDM_CKIN4/DFSDM_D1/SPI3_MOSI/I2S3_SD/SAI1_SD_A/U2_RX/SDMMC2_CK/FMC_NWAIT/DCMI_D10/LCD_B2, 151 PD7/DFSDM_CKIN1/DFSDM_D4/SPI1_MOSI/I2S1_SD/U2_CK/SDMMC2_CMD/SPDIFRX_IN0/FMC_NE1, 152 PG9/SPI1_MISO/SPDIFRX_IN3/U6_RX/QSPI_BK2_IO2/SAI2_FS_B/SDMMC2_D0/FMC_NE2/FMC_NCE/DCMI_VSYNC, 153 PG10/SPI1_NSS/I2S1_WS/LCD_G3/SAI2_SD_B/SDMMC2_D1/FMC_NE3/DCMI_D2/LCD_B2, 154 PG11/SPI1_SCK/I2S1_CK/SPDIFRX_IN0/SDMMC2_D2/ETH_MII_TX_EN/ETH_RMII_TX_EN/DCMI_D3/LCD_B3, 155 PG12/LPTIM1_IN1/SPI6_MISO/SPDIFRX_IN1/U6_RTS/SDMMC2_D3/FMC_NE4/LCD_B1/LCD_B4, 156 PG13/LPTIM1_OUT/SPI6_SCK/U6_CTS/ETH_MII_TXD0/ETH_RMII_TXD0/FMC_A24/LCD_R0, 157 PG14/LPTIM1_ETR/SPI6_MOSI/U6_TX/QSPI_BK2_IO3/ETH_MII_TXD1/ETH_RMII_TXD1/FMC_A25/LCD_B0, 158 VSS, 159 VDD, 160 PG15/U6_CTS/FMC_SDNCAS/DCMI_D13, 161 PB3/JTDO/TIM2_CH2/SPI1_SCK/I2S1_CK/SPI3_SCK/I2S3_CK/SPI6_SCK/SDMMC2_D2/CAN3_RX/U7_RX, 162 PB4/NJTRST/TIM3_CH1/SPI1_MISO/SPI3_MISO/SPI2_NSS/I2S2_WS/SPI6_MISO/SDMMC2_D3/CAN3_TX/U7_TX, 163 PB5/U5_RX/TIM3_CH2/I2C1_SMBA/SPI1_MOSI/I2S1_SD/SPI3_MOSI/I2S3_SD/SPI6_MOSI/CAN2_RX/OTG_HS_ULPI_D7/ETH_PPS_OUT/FMC_SDCKE1/DCMI_D10/LCD_G7, 164 PB6/U5_TX/TIM4_CH1/HDMI_CEC/I2C1_SCL/DFSDM_D5/U1_TX/CAN2_TX/QSPI_BK1_NCS/I2C4_SCL/FMC_SDNE1/DCMI_D5, 165 PB7/TIM4_CH2/I2C1_SDA/DFSDM_CKIN5/U1_RX/I2C4_SDA/FMC_NL/DCMI_VSYNC, 166 BOOT, 167 PB8/I2C4_SCL/TIM4_CH3/TIM10_CH1/I2C1_SCL/DFSDM_CKIN7/U5_RX/CAN1_RX/ETH_MII_TXD3/SDMMC12_D4/DCMI_D6/LCD_B6, 168 PB9/I2C4_SDA/TIM4_CH4/TIM11_CH1/I2C1_SDA/SPI2_NSS/I2S2_WS/DFSDM_D7/U5_TX/CAN1_TX/SDMMC12_D5/I2C4_SMBA/DCMI_D7/LCD_B7, 169 PE0/TIM4_ETR/LPTIM1_ETR/U8_RX/SAI2_MCK_A/FMC_NBL0/DCMI_D2, 170 PE1/LPTIM1_IN2/U8_TX/FMC_NBL1/DCMI_D3, 171 PDR_ON, 172 VDD, 173 PI4/TIM8_BKIN/SAI2_MCK_A/FMC_NBL2/DCMI_D5/LCD_B4, 174 PI5/TIM8_CH1/SAI2_SCK_A/FMC_NBL3/DCMI_VSYNC/LCD_B5, 175 PI6/TIM8_CH2/SAI2_SD_A/FMC_D28/DCMI_D6/LCD_B6, 176 PI7/TIM8_CH3/SAI2_FS_A/FMC_D29/DCMI_D7/LCD_B7

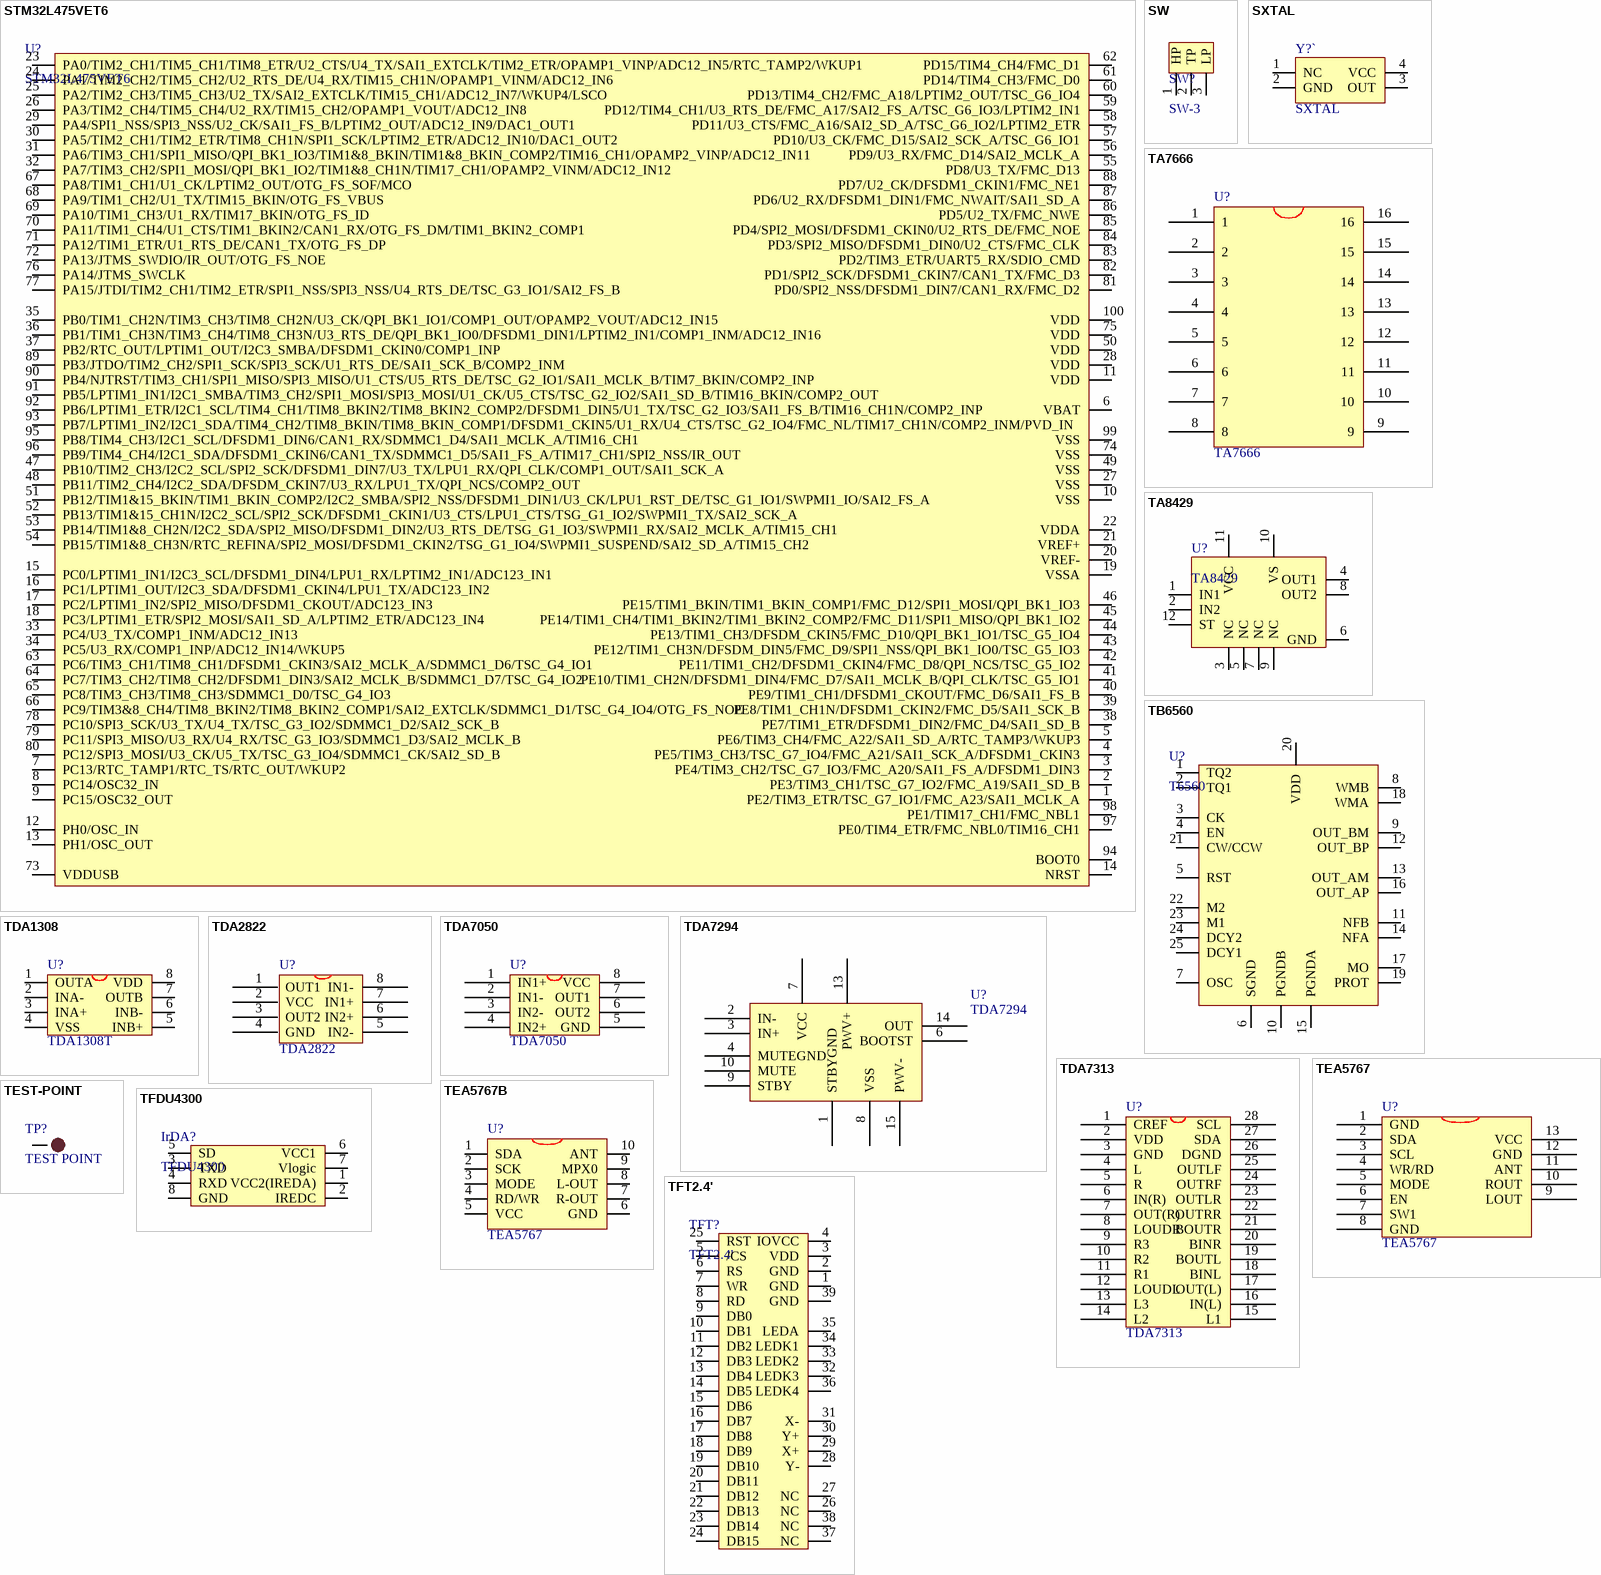
[diagram p18: symbols STM32L475VET6 to TFT2.4']

## STM32L475VET6
designator U?
footprint LQFP100 (TSQFP, 100-Leads, Body 16.0x16.0mm (max), Pitch 0.50mm, IPC Medium Density)
pins: 1 PE2/TIM3_ETR/TSC_G7_IO1/FMC_A23/SAI1_MCLK_A, 2 PE3/TIM3_CH1/TSC_G7_IO2/FMC_A19/SAI1_SD_B, 3 PE4/TIM3_CH2/TSC_G7_IO3/FMC_A20/SAI1_FS_A/DFSDM1_DIN3, 4 PE5/TIM3_CH3/TSC_G7_IO4/FMC_A21/SAI1_SCK_A/DFSDM1_CKIN3, 5 PE6/TIM3_CH4/FMC_A22/SAI1_SD_A/RTC_TAMP3/WKUP3, 6 VBAT, 7 PC13/RTC_TAMP1/RTC_TS/RTC_OUT/WKUP2, 8 PC14/OSC32_IN  , 9 PC15/OSC32_OUT  , 10 VSS, 11 VDD, 12 PH0/OSC_IN  , 13 PH1/OSC_OUT  , 14 NRST, 15 PC0/LPTIM1_IN1/I2C3_SCL/DFSDM1_DIN4/LPU1_RX/LPTIM2_IN1/ADC123_IN1, 16 PC1/LPTIM1_OUT/I2C3_SDA/DFSDM1_CKIN4/LPU1_TX/ADC123_IN2, 17 PC2/LPTIM1_IN2/SPI2_MISO/DFSDM1_CKOUT/ADC123_IN3, 18 PC3/LPTIM1_ETR/SPI2_MOSI/SAI1_SD_A/LPTIM2_ETR/ADC123_IN4, 19 VSSA, 20 VREF-, 21 VREF+, 22 VDDA, 23 PA0/TIM2_CH1/TIM5_CH1/TIM8_ETR/U2_CTS/U4_TX/SAI1_EXTCLK/TIM2_ETR/OPAMP1_VINP/ADC12_IN5/RTC_TAMP2/WKUP1, 24 PA1/TIM2_CH2/TIM5_CH2/U2_RTS_DE/U4_RX/TIM15_CH1N/OPAMP1_VINM/ADC12_IN6, 25 PA2/TIM2_CH3/TIM5_CH3/U2_TX/SAI2_EXTCLK/TIM15_CH1/ADC12_IN7/WKUP4/LSCO, 26 PA3/TIM2_CH4/TIM5_CH4/U2_RX/TIM15_CH2/OPAMP1_VOUT/ADC12_IN8, 27 VSS, 28 VDD, 29 PA4/SPI1_NSS/SPI3_NSS/U2_CK/SAI1_FS_B/LPTIM2_OUT/ADC12_IN9/DAC1_OUT1, 30 PA5/TIM2_CH1/TIM2_ETR/TIM8_CH1N/SPI1_SCK/LPTIM2_ETR/ADC12_IN10/DAC1_OUT2, 31 PA6/TIM3_CH1/SPI1_MISO/QPI_BK1_IO3/TIM1&8_BKIN/TIM1&8_BKIN_COMP2/TIM16_CH1/OPAMP2_VINP/ADC12_IN11, 32 PA7/TIM3_CH2/SPI1_MOSI/QPI_BK1_IO2/TIM1&8_CH1N/TIM17_CH1/OPAMP2_VINM/ADC12_IN12, 33 PC4/U3_TX/COMP1_INM/ADC12_IN13, 34 PC5/U3_RX/COMP1_INP/ADC12_IN14/WKUP5, 35 PB0/TIM1_CH2N/TIM3_CH3/TIM8_CH2N/U3_CK/QPI_BK1_IO1/COMP1_OUT/OPAMP2_VOUT/ADC12_IN15, 36 PB1/TIM1_CH3N/TIM3_CH4/TIM8_CH3N/U3_RTS_DE/QPI_BK1_IO0/DFSDM1_DIN1/LPTIM2_IN1/COMP1_INM/ADC12_IN16, 37 PB2/RTC_OUT/LPTIM1_OUT/I2C3_SMBA/DFSDM1_CKIN0/COMP1_INP, 38 PE7/TIM1_ETR/DFSDM1_DIN2/FMC_D4/SAI1_SD_B, 39 PE8/TIM1_CH1N/DFSDM1_CKIN2/FMC_D5/SAI1_SCK_B, 40 PE9/TIM1_CH1/DFSDM1_CKOUT/FMC_D6/SAI1_FS_B, 41 PE10/TIM1_CH2N/DFSDM1_DIN4/FMC_D7/SAI1_MCLK_B/QPI_CLK/TSC_G5_IO1, 42 PE11/TIM1_CH2/DFSDM1_CKIN4/FMC_D8/QPI_NCS/TSC_G5_IO2, 43 PE12/TIM1_CH3N/DFSDM_DIN5/FMC_D9/SPI1_NSS/QPI_BK1_IO0/TSC_G5_IO3, 44 PE13/TIM1_CH3/DFSDM_CKIN5/FMC_D10/QPI_BK1_IO1/TSC_G5_IO4, 45 PE14/TIM1_CH4/TIM1_BKIN2/TIM1_BKIN2_COMP2/FMC_D11/SPI1_MISO/QPI_BK1_IO2, 46 PE15/TIM1_BKIN/TIM1_BKIN_COMP1/FMC_D12/SPI1_MOSI/QPI_BK1_IO3, 47 PB10/TIM2_CH3/I2C2_SCL/SPI2_SCK/DFSDM1_DIN7/U3_TX/LPU1_RX/QPI_CLK/COMP1_OUT/SAI1_SCK_A, 48 PB11/TIM2_CH4/I2C2_SDA/DFSDM_CKIN7/U3_RX/LPU1_TX/QPI_NCS/COMP2_OUT, 49 VSS, 50 VDD, 51 PB12/TIM1&15_BKIN/TIM1_BKIN_COMP2/I2C2_SMBA/SPI2_NSS/DFSDM1_DIN1/U3_CK/LPU1_RST_DE/TSC_G1_IO1/SWPMI1_IO/SAI2_FS_A, 52 PB13/TIM1&15_CH1N/I2C2_SCL/SPI2_SCK/DFSDM1_CKIN1/U3_CTS/LPU1_CTS/TSG_G1_IO2/SWPMI1_TX/SAI2_SCK_A, 53 PB14/TIM1&8_CH2N/I2C2_SDA/SPI2_MISO/DFSDM1_DIN2/U3_RTS_DE/TSG_G1_IO3/SWPMI1_RX/SAI2_MCLK_A/TIM15_CH1, 54 PB15/TIM1&8_CH3N/RTC_REFINA/SPI2_MOSI/DFSDM1_CKIN2/TSG_G1_IO4/SWPMI1_SUSPEND/SAI2_SD_A/TIM15_CH2, 55 PD8/U3_TX/FMC_D13, 56 PD9/U3_RX/FMC_D14/SAI2_MCLK_A, 57 PD10/U3_CK/FMC_D15/SAI2_SCK_A/TSC_G6_IO1, 58 PD11/U3_CTS/FMC_A16/SAI2_SD_A/TSC_G6_IO2/LPTIM2_ETR, 59 PD12/TIM4_CH1/U3_RTS_DE/FMC_A17/SAI2_FS_A/TSC_G6_IO3/LPTIM2_IN1, 60 PD13/TIM4_CH2/FMC_A18/LPTIM2_OUT/TSC_G6_IO4, 61 PD14/TIM4_CH3/FMC_D0, 62 PD15/TIM4_CH4/FMC_D1, 63 PC6/TIM3_CH1/TIM8_CH1/DFSDM1_CKIN3/SAI2_MCLK_A/SDMMC1_D6/TSC_G4_IO1, 64 PC7/TIM3_CH2/TIM8_CH2/DFSDM1_DIN3/SAI2_MCLK_B/SDMMC1_D7/TSC_G4_IO2, 65 PC8/TIM3_CH3/TIM8_CH3/SDMMC1_D0/TSC_G4_IO3, 66 PC9/TIM3&8_CH4/TIM8_BKIN2/TIM8_BKIN2_COMP1/SAI2_EXTCLK/SDMMC1_D1/TSC_G4_IO4/OTG_FS_NOE, 67 PA8/TIM1_CH1/U1_CK/LPTIM2_OUT/OTG_FS_SOF/MCO, 68 PA9/TIM1_CH2/U1_TX/TIM15_BKIN/OTG_FS_VBUS, 69 PA10/TIM1_CH3/U1_RX/TIM17_BKIN/OTG_FS_ID, 70 PA11/TIM1_CH4/U1_CTS/TIM1_BKIN2/CAN1_RX/OTG_FS_DM/TIM1_BKIN2_COMP1, 71 PA12/TIM1_ETR/U1_RTS_DE/CAN1_TX/OTG_FS_DP, 72 PA13/JTMS_SWDIO/IR_OUT/OTG_FS_NOE, 73 VDDUSB, 74 VSS, 75 VDD, 76 PA14/JTMS_SWCLK, 77 PA15/JTDI/TIM2_CH1/TIM2_ETR/SPI1_NSS/SPI3_NSS/U4_RTS_DE/TSC_G3_IO1/SAI2_FS_B, 78 PC10/SPI3_SCK/U3_TX/U4_TX/TSC_G3_IO2/SDMMC1_D2/SAI2_SCK_B, 79 PC11/SPI3_MISO/U3_RX/U4_RX/TSC_G3_IO3/SDMMC1_D3/SAI2_MCLK_B, 80 PC12/SPI3_MOSI/U3_CK/U5_TX/TSC_G3_IO4/SDMMC1_CK/SAI2_SD_B, 81 PD0/SPI2_NSS/DFSDM1_DIN7/CAN1_RX/FMC_D2, 82 PD1/SPI2_SCK/DFSDM1_CKIN7/CAN1_TX/FMC_D3, 83 PD2/TIM3_ETR/UART5_RX/SDIO_CMD, 84 PD3/SPI2_MISO/DFSDM1_DIN0/U2_CTS/FMC_CLK, 85 PD4/SPI2_MOSI/DFSDM1_CKIN0/U2_RTS_DE/FMC_NOE, 86 PD5/U2_TX/FMC_NWE, 87 PD6/U2_RX/DFSDM1_DIN1/FMC_NWAIT/SAI1_SD_A, 88 PD7/U2_CK/DFSDM1_CKIN1/FMC_NE1, 89 PB3/JTDO/TIM2_CH2/SPI1_SCK/SPI3_SCK/U1_RTS_DE/SAI1_SCK_B/COMP2_INM, 90 PB4/NJTRST/TIM3_CH1/SPI1_MISO/SPI3_MISO/U1_CTS/U5_RTS_DE/TSC_G2_IO1/SAI1_MCLK_B/TIM7_BKIN/COMP2_INP, 91 PB5/LPTIM1_IN1/I2C1_SMBA/TIM3_CH2/SPI1_MOSI/SPI3_MOSI/U1_CK/U5_CTS/TSC_G2_IO2/SAI1_SD_B/TIM16_BKIN/COMP2_OUT, 92 PB6/LPTIM1_ETR/I2C1_SCL/TIM4_CH1/TIM8_BKIN2/TIM8_BKIN2_COMP2/DFSDM1_DIN5/U1_TX/TSC_G2_IO3/SAI1_FS_B/TIM16_CH1N/COMP2_INP, 93 PB7/LPTIM1_IN2/I2C1_SDA/TIM4_CH2/TIM8_BKIN/TIM8_BKIN_COMP1/DFSDM1_CKIN5/U1_RX/U4_CTS/TSC_G2_IO4/FMC_NL/TIM17_CH1N/COMP2_INM/PVD_IN, 94 BOOT0, 95 PB8/TIM4_CH3/I2C1_SCL/DFSDM1_DIN6/CAN1_RX/SDMMC1_D4/SAI1_MCLK_A/TIM16_CH1, 96 PB9/TIM4_CH4/I2C1_SDA/DFSDM1_CKIN6/CAN1_TX/SDMMC1_D5/SAI1_FS_A/TIM17_CH1/SPI2_NSS/IR_OUT, 97 PE0/TIM4_ETR/FMC_NBL0/TIM16_CH1, 98 PE1/TIM17_CH1/FMC_NBL1, 99 VSS, 100 VDD

## SW
designator SW?, comment SW-3
footprint SW-3 (SWITCH;PIN:10;25*50;)
pins: 1 HP, 2 TP, 3 LP

## SXTAL
designator Y?`
footprint SXTALhalf (SXTAL)
pins: 1 NC, 2 GND, 3 OUT, 4 VCC

## TA7666
designator U?
footprint DIP-16 (Plastic DIP; 16 Leads; Row Spacing 7.62 mm; Pitch 2.54 mm)
pins: 1, 2, 3, 4, 5, 6, 7, 8, 9, 10, 11, 12, 13, 14, 15, 16

## TA8429
designator U?
footprint HZIP12-P-1.78B
pins: 1 IN1, 2 IN2, 3 NC, 4 OUT1, 5 NC, 6 GND, 7 NC, 8 OUT2, 9 NC, 10 VS, 11 VCC, 12 ST

## TB6560
designator U?, comment T6560
footprint HZIP25-P-1.27 (thick:4.57,height:14,lenth:30,pin:1.27)
pins: 1 TQ2, 2 TQ1, 3 CK, 4 EN, 5 RST, 6 SGND, 7 OSC, 8 WMB, 9 OUT_BM, 10 PGNDB, 11 NFB, 12 OUT_BP, 13 OUT_AM, 14 NFA, 15 PGNDA, 16 OUT_AP, 17 MO, 18 WMA, 19 PROT, 20 VDD, 21 CW/CCW, 22 M2, 23 M1, 24 DCY2, 25 DCY1

## TDA1308
designator U?, comment TDA1308T
footprint SOP-8 (SSOP8)
pins: 1 OUTA, 2 INA-, 3 INA+, 4 VSS, 5 INB+, 6 INB-, 7 OUTB, 8 VDD

## TDA2822
designator U?
footprint DIP-8 (DIP; 8 Leads; Row Spacing 7.62 mm; Pitch 2.54 mm)
pins: 1 OUT1, 2 VCC, 3 OUT2, 4 GND, 5 IN2-, 6 IN2+, 7 IN1+, 8 IN1-

## TDA7050
designator U?
footprint SOP-8 (SSOP8)
pins: 1 IN1+, 2 IN1-, 3 IN2-, 4 IN2+, 5 GND, 6 OUT2, 7 OUT1, 8 VCC

## TDA7294
designator U?
footprint DFM-T15/X1.5H (TO, Thru-Hole, Horizontal, Heatsink Mounted; 15 Bent Staggered Leads; Pitch 1.27 mm)
pins: 1 STBYGND, 2 IN-, 3 IN+, 4 MUTEGND, 6 BOOTST, 7 VCC, 8 VSS, 9 STBY, 10 MUTE, 13 PWV+, 14 OUT, 15 PWV-

## TDA7313
designator U?
footprint DIP-28/D38.1
pins: 1 CREF, 2 VDD, 3 GND, 4 L, 5 R, 6 IN(R), 7 OUT(R), 8 LOUDR, 9 R3, 10 R2, 11 R1, 12 LOUDL, 13 L3, 14 L2, 15 L1, 16 IN(L), 17 OUT(L), 18 BINL, 19 BOUTL, 20 BINR, 21 BOUTR, 22 OUTRR, 23 OUTLR, 24 OUTRF, 25 OUTLF, 26 DGND, 27 SDA, 28 SCL

## TEA5767
designator U?
footprint SOP13 (TEA5767)
pins: 1 GND, 2 SDA, 3 SCL, 4 WR/RD, 5 MODE, 6 EN, 7 SW1, 8 GND, 9 LOUT, 10 ROUT, 11 ANT, 12 GND, 13 VCC

## TEA5767B
designator U?, comment TEA5767
footprint TEA5767B (TEA5767)
pins: 1 SDA, 2 SCK, 3 MODE, 4 RD/WR, 5 VCC, 6 GND, 7 R-OUT, 8 L-OUT, 9 MPX0, 10 ANT

## TEST-POINT
designator TP?, comment TEST POINT
测试点
footprint TP-1.0 (1.0mm)
footprint TP-1.5 (1.5mm)
pins: 1

## TFDU4300
designator IrDA?
footprint TFDU4300 (8.5mm*2.85mm;pin:0.95mm;)
pins: 1 VCC2(IREDA), 2 IREDC, 3 TXD, 4 RXD, 5 SD, 6 VCC1, 7 Vlogic, 8 GND

## TFT2.4'
designator TFT?
footprint TFT2.4' (TFT,LCD,320*240,2.4',TOUCH,8/16bit)
pins: 1 GND, 2 GND, 3 VDD, 4 IOVCC, 5 /CS, 6 RS, 7 WR, 8 RD, 9 DB0, 10 DB1, 11 DB2, 12 DB3, 13 DB4, 14 DB5, 15 DB6, 16 DB7, 17 DB8, 18 DB9, 19 DB10, 20 DB11, 21 DB12, 22 DB13, 23 DB14, 24 DB15, 25 RST, 26 NC, 27 NC, 28 Y-, 29 X+, 30 Y+, 31 X-, 32 LEDK3, 33 LEDK2, 34 LEDK1, 35 LEDA, 36 LEDK4, 37 NC, 38 NC, 39 GND

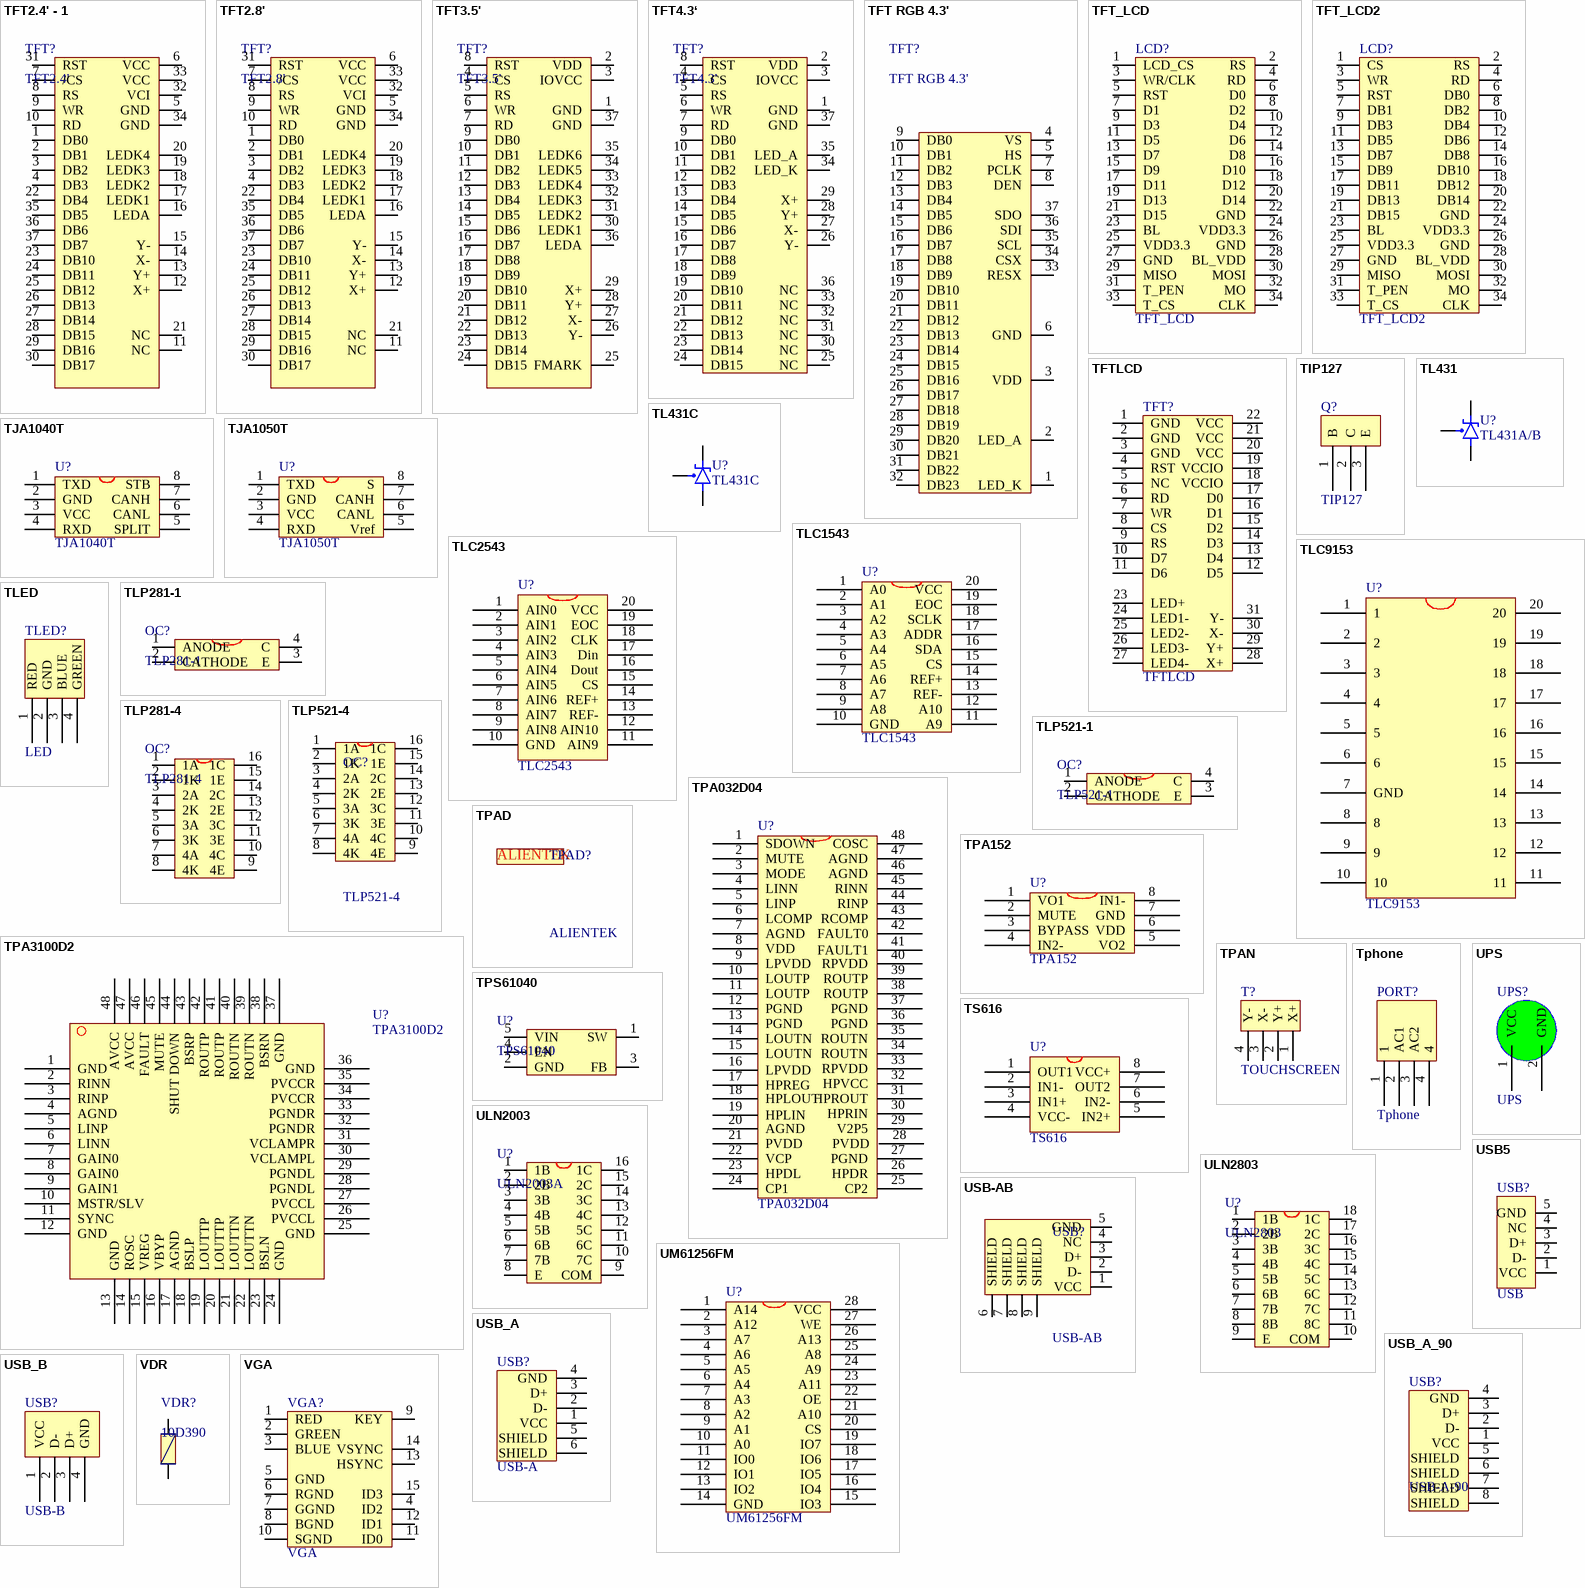
[diagram p19: symbols TFT2.4' - 1 to VGA]

## TFT2.4' - 1
designator TFT?, comment TFT2.4'
GENE
footprint TFT2.4' - 1 (TFT,LCD,320*240,2.4',TOUCH,8/16bit,GENE)
pins: 1 DB0, 2 DB1, 3 DB2, 4 DB3, 5 GND, 6 VCC, 7 /CS, 8 RS, 9 WR, 10 RD, 11 NC, 12 X+, 13 Y+, 14 X-, 15 Y-, 16 LEDA, 17 LEDK1, 18 LEDK2, 19 LEDK3, 20 LEDK4, 21 NC, 22 DB4, 23 DB10, 24 DB11, 25 DB12, 26 DB13, 27 DB14, 28 DB15, 29 DB16, 30 DB17, 31 RST, 32 VCI, 33 VCC, 34 GND, 35 DB5, 36 DB6, 37 DB7

## TFT2.8'
designator TFT?
footprint TFT2.8' (TFT,LCD,320*240,2.8',TOUCH,8/16bit)
pins: 1 DB0, 2 DB1, 3 DB2, 4 DB3, 5 GND, 6 VCC, 7 /CS, 8 RS, 9 WR, 10 RD, 11 NC, 12 X+, 13 Y+, 14 X-, 15 Y-, 16 LEDA, 17 LEDK1, 18 LEDK2, 19 LEDK3, 20 LEDK4, 21 NC, 22 DB4, 23 DB10, 24 DB11, 25 DB12, 26 DB13, 27 DB14, 28 DB15, 29 DB16, 30 DB17, 31 RST, 32 VCI, 33 VCC, 34 GND, 35 DB5, 36 DB6, 37 DB7

## TFT3.5'
designator TFT?
3.5寸,带触摸,分辨率:480*320
footprint TFT3.5' (TFT,LCD,480*320,3.5',TOUCH,16bit)
pins: 1 GND, 2 VDD, 3 IOVCC, 4 CS, 5 RS, 6 WR, 7 RD, 8 RST, 9 DB0, 10 DB1, 11 DB2, 12 DB3, 13 DB4, 14 DB5, 15 DB6, 16 DB7, 17 DB8, 18 DB9, 19 DB10, 20 DB11, 21 DB12, 22 DB13, 23 DB14, 24 DB15, 25 FMARK, 26 Y-, 27 X-, 28 Y+, 29 X+, 30 LEDK1, 31 LEDK2, 32 LEDK3, 33 LEDK4, 34 LEDK5, 35 LEDK6, 36 LEDA, 37 GND

## TFT4.3‘
designator TFT?, comment TFT4.3'
4.3寸,电容/电阻触摸,分辨率:480*800
footprint TFT4.3' (TFT,LCD,480*800,4.3',TOUCH,16bit)
pins: 1 GND, 2 VDD, 3 IOVCC, 4 CS, 5 RS, 6 WR, 7 RD, 8 RST, 9 DB0, 10 DB1, 11 DB2, 12 DB3, 13 DB4, 14 DB5, 15 DB6, 16 DB7, 17 DB8, 18 DB9, 19 DB10, 20 DB11, 21 DB12, 22 DB13, 23 DB14, 24 DB15, 25 NC, 26 Y-, 27 X-, 28 Y+, 29 X+, 30 NC, 31 NC, 32 NC, 33 NC, 34 LED_K, 35 LED_A, 36 NC, 37 GND

## TFT RGB 4.3'
designator TFT?
4.3寸RGB屏,电容触摸,分辨率:480*800
footprint TFT4.3' (TFT,LCD,480*800,4.3',TOUCH,16bit)
pins: 1 LED_K, 2 LED_A, 3 VDD, 4 VS, 5 HS, 6 GND, 7 PCLK, 8 DEN, 9 DB0, 10 DB1, 11 DB2, 12 DB3, 13 DB4, 14 DB5, 15 DB6, 16 DB7, 17 DB8, 18 DB9, 19 DB10, 20 DB11, 21 DB12, 22 DB13, 23 DB14, 24 DB15, 25 DB16, 26 DB17, 27 DB18, 28 DB19, 29 DB20, 30 DB21, 31 DB22, 32 DB23, 33 RESX, 34 CSX, 35 SCL, 36 SDI, 37 SDO

## TFT_LCD
designator LCD?
footprint DB2*17 (DB_LCD)
footprint DB2*17-3.5 (DB_LCD-3.5')
footprint db2*17-4.3 (DB_LCD-4.3')
pins: 1 LCD_CS, 2 RS, 3 WR/CLK, 4 RD, 5 RST, 6 D0, 7 D1, 8 D2, 9 D3, 10 D4, 11 D5, 12 D6, 13 D7, 14 D8, 15 D9, 16 D10, 17 D11, 18 D12, 19 D13, 20 D14, 21 D15, 22 GND, 23 BL, 24 VDD3.3, 25 VDD3.3, 26 GND, 27 GND, 28 BL_VDD, 29 MISO, 30 MOSI, 31 T_PEN, 32 MO, 33 T_CS, 34 CLK

## TFT_LCD2
designator LCD?
footprint DB2*17-3.5 (DB_LCD-3.5')
pins: 1 CS, 2 RS, 3 WR, 4 RD, 5 RST, 6 DB0, 7 DB1, 8 DB2, 9 DB3, 10 DB4, 11 DB5, 12 DB6, 13 DB7, 14 DB8, 15 DB9, 16 DB10, 17 DB11, 18 DB12, 19 DB13, 20 DB14, 21 DB15, 22 GND, 23 BL, 24 VDD3.3, 25 VDD3.3, 26 GND, 27 GND, 28 BL_VDD, 29 MISO, 30 MOSI, 31 T_PEN, 32 MO, 33 T_CS, 34 CLK

## TFTLCD
designator TFT?
footprint TFT (TFTLCD_34)
pins: 1 GND, 2 GND, 3 GND, 4 RST, 5 NC, 6 RD, 7 WR, 8 CS, 9 RS, 10 D7, 11 D6, 12 D5, 13 D4, 14 D3, 15 D2, 16 D1, 17 D0, 18 VCCIO, 19 VCCIO, 20 VCC, 21 VCC, 22 VCC, 23 LED+, 24 LED1-, 25 LED2-, 26 LED3-, 27 LED4-, 28 X+, 29 Y+, 30 X-, 31 Y-

## TIP127
designator Q?
footprint TIP127
pins: 1 B, 2 C, 3 E

## TJA1040T
designator U?
footprint SOP-8 (SSOP8)
pins: 1 TXD, 2 GND, 3 VCC, 4 RXD, 5 SPLIT, 6 CANL, 7 CANH, 8 STB

## TJA1050T
designator U?
footprint SOP-8 (SSOP8)
pins: 1 TXD, 2 GND, 3 VCC, 4 RXD, 5 Vref, 6 CANL, 7 CANH, 8 S

## TL431
designator U?, comment TL431A/B
footprint SOT-23 (SOT-23; 3 Leads; Body 3.0 x 2.5 mm, inc. leads (LxW max))
pins: 1 CATHODE, 2 REF, 3 ANODE

## TL431C
designator U?
footprint SOT-23 (SOT-23; 3 Leads; Body 3.0 x 2.5 mm, inc. leads (LxW max))
pins: 1 REF, 2 CATHODE, 3 ANODE

## TLC1543
designator U?
footprint DIP-20 (DIP; 20 Leads; Row Spacing 7.62 mm; Pitch 2.54 mm)
pins: 1 A0, 2 A1, 3 A2, 4 A3, 5 A4, 6 A5, 7 A6, 8 A7, 9 A8, 10 GND, 11 A9, 12 A10, 13 REF-, 14 REF+, 15 CS, 16 SDA, 17 ADDR, 18 SCLK, 19 EOC, 20 VCC

## TLC2543
designator U?
footprint DIP-20
pins: 1 AIN0, 2 AIN1, 3 AIN2, 4 AIN3, 5 AIN4, 6 AIN5, 7 AIN6, 8 AIN7, 9 AIN8, 10 GND, 11 AIN9, 12 AIN10, 13 REF-, 14 REF+, 15 CS, 16 Dout, 17 Din, 18 CLK, 19 EOC, 20 VCC

## TLC9153
designator U?
footprint DIP-20/E5.3 (Plastic DIP; 20 Leads; Row Spacing 7.62 mm; Pitch 2.54 mm)
pins: 1, 2, 3, 4, 5, 6, 7 GND, 8, 9, 10, 11, 12, 13, 14, 15, 16, 17, 18, 19, 20

## TLED
designator TLED?, comment LED
footprint TLED (LED)
pins: 1 RED, 2 GND, 3 BLUE, 4 GREEN

## TLP281-1
designator OC?
footprint DIP4 (DIP-4,W:2.54mm)
footprint SOP4-281 (TLP281-1;1.27mm;4.4*2.6mm)
pins: 1 ANODE, 2 CATHODE, 3 E, 4 C

## TLP281-4
designator OC?
footprint SOP16-281 (TLP281-4;1.27mm;4.4*10.3mm)
pins: 1 1A, 2 1K, 3 2A, 4 2K, 5 3A, 6 3K, 7 4A, 8 4K, 9 4E, 10 4C, 11 3E, 12 3C, 13 2E, 14 2C, 15 1E, 16 1C

## TLP521-1
designator OC?
footprint DIP4 (DIP-4,W:2.54mm)
footprint SOPDIP4 (SOP-4,Row Spacing 7.62 mm; Pitch 2.54 mm)
pins: 1 ANODE, 2 CATHODE, 3 E, 4 C

## TLP521-4
designator OC?
footprint DIP16 (DIP16,Row Spacing 7.62 mm; Pitch 2.54 mm)
footprint SOPDIP16 (SOP16;2.54mm;)
pins: 1 1A, 2 1K, 3 2A, 4 2K, 5 3A, 6 3K, 7 4A, 8 4K, 9 4E, 10 4C, 11 3E, 12 3C, 13 2E, 14 2C, 15 1E, 16 1C

## TPA032D04
designator U?
footprint SOP48 (SOP-48)
pins: 1 SDOWN, 2 MUTE, 3 MODE, 4 LINN, 5 LINP, 6 LCOMP, 7 AGND, 8 VDD, 9 LPVDD, 10 LOUTP, 11 LOUTP, 12 PGND, 13 PGND, 14 LOUTN, 15 LOUTN, 16 LPVDD, 17 HPREG, 18 HPLOUT, 19 HPLIN, 20 AGND, 21 PVDD, 22 VCP, 23 HPDL, 24 CP1, 25 CP2, 26 HPDR, 27 PGND, 28 PVDD, 29 V2P5, 30 HPRIN, 31 HPROUT, 32 HPVCC, 33 RPVDD, 34 ROUTN, 35 ROUTN, 36 PGND, 37 PGND, 38 ROUTP, 39 ROUTP, 40 RPVDD, 41 FAULT1, 42 FAULT0, 43 RCOMP, 44 RINP, 45 RINN, 46 AGND, 47 AGND, 48 COSC

## TPA152
designator U?
footprint SOP-8 (SSOP8)
pins: 1 VO1, 2 MUTE, 3 BYPASS, 4 IN2-, 5 VO2, 6 VDD, 7 GND, 8 IN1-

## TPA3100D2
designator U?
footprint mTQFP48 (5.8mm)
pins: 1 GND, 2 RINN, 3 RINP, 4 AGND, 5 LINP, 6 LINN, 7 GAIN0, 8 GAIN0, 9 GAIN1, 10 MSTR/SLV, 11 SYNC, 12 GND, 13 GND, 14 ROSC, 15 VREG, 16 VBYP, 17 AGND, 18 BSLP, 19 LOUTTP, 20 LOUTTP, 21 LOUTTN, 22 LOUTTN, 23 BSLN, 24 GND, 25 GND, 26 PVCCL, 27 PVCCL, 28 PGNDL, 29 PGNDL, 30 VCLAMPL, 31 VCLAMPR, 32 PGNDR, 33 PGNDR, 34 PVCCR, 35 PVCCR, 36 GND, 37 GND, 38 BSRN, 39 ROUTN, 40 ROUTN, 41 ROUTP, 42 ROUTP, 43 BSRP, 44 SHUT DOWN, 45 MUTE, 46 FAULT, 47 AVCC, 48 AVCC

## TPAD
designator TPAD?, comment ALIENTEK
ALIENTEK TPAD
footprint ALIENTEK_PAD
footprint ALIENTEK_PAD1

## TPAN
designator T?, comment TOUCHSCREEN
footprint TPAN (TOUCH SCREEN)
pins: 1 X+, 2 Y+, 3 X-, 4 Y-

## Tphone
designator PORT?
footprint Tphone
pins: 1, 2 AC1, 3 AC2, 4

## TPS61040
designator U?
DC DC Step Up IC
footprint SOT-23-5
pins: 1 SW, 2 GND, 3 FB, 4 EN, 5 VIN

## TS616
designator U?
footprint SOP-8 (SSOP8)
pins: 1 OUT1, 2 IN1-, 3 IN1+, 4 VCC-, 5 IN2+, 6 IN2-, 7 OUT2, 8 VCC+

## ULN2003
designator U?, comment ULN2003A
footprint SOP16M (Small Outline; 16 Leads; Body Width 3.9 mm; Pitch 1.27 mm)
pins: 1 1B, 2 2B, 3 3B, 4 4B, 5 5B, 6 6B, 7 7B, 8 E, 9 COM, 10 7C, 11 6C, 12 5C, 13 4C, 14 3C, 15 2C, 16 1C

## ULN2803
designator U?
footprint SOIC-18W (SIZE:10mm*10.8mm;PIN:1.27mm;)
pins: 1 1B, 2 2B, 3 3B, 4 4B, 5 5B, 6 6B, 7 7B, 8 8B, 9 E, 10 COM, 11 8C, 12 7C, 13 6C, 14 5C, 15 4C, 16 3C, 17 2C, 18 1C

## UM61256FM
designator U?
footprint DSOP28 (DSIZE)
pins: 1 A14, 2 A12, 3 A7, 4 A6, 5 A5, 6 A4, 7 A3, 8 A2, 9 A1, 10 A0, 11 IO0, 12 IO1, 13 IO2, 14 GND, 15 IO3, 16 IO4, 17 IO5, 18 IO6, 19 IO7, 20 CS, 21 A10, 22 OE, 23 A11, 24 A9, 25 A8, 26 A13, 27 WE, 28 VCC

## UPS
designator UPS?
footprint BAT (BATTERY)
pins: 1 VCC, 2 GND

## USB5
designator USB?, comment USB
MiniUSB
footprint USB/SM0.8-6H5
pins: 1 VCC, 2 D-, 3 D+, 4 NC, 5 GND

## USB-AB
designator USB?
MicroUSB
footprint USB-AB-SOP (Micro USB SOP)
footprint USB_AB (Micro usb座 5pin)
footprint USB_AB - 5S - B (Micro usb座 5pin)
pins: 1 VCC, 2 D-, 3 D+, 4 NC, 5 GND, 6 SHIELD, 7 SHIELD, 8 SHIELD, 9 SHIELD

## USB_A
designator USB?, comment USB-A
footprint USB-A
pins: 1 VCC, 2 D-, 3 D+, 4 GND, 5 SHIELD, 6 SHIELD

## USB_A_90
designator USB?, comment USB-A-90
footprint USB-A-90
pins: 1 VCC, 2 D-, 3 D+, 4 GND, 5 SHIELD, 6 SHIELD, 7 SHIELD, 8 SHIELD

## USB_B
designator USB?, comment USB-B
footprint USBFM
footprint USB-B
pins: 1 VCC, 2 D-, 3 D+, 4 GND

## VDR
designator VDR?, comment 10D390
10D390/5N390
footprint VDR (PIN:5.08;SIZE:7*3;)
pins: 1, 2

## VGA
designator VGA?
footprint DB15 (VGA-15)
pins: 1 RED, 2 GREEN, 3 BLUE, 4 ID2, 5 GND, 6 RGND, 7 GGND, 8 BGND, 9 KEY, 10 SGND, 11 ID0, 12 ID1, 13 HSYNC, 14 VSYNC, 15 ID3

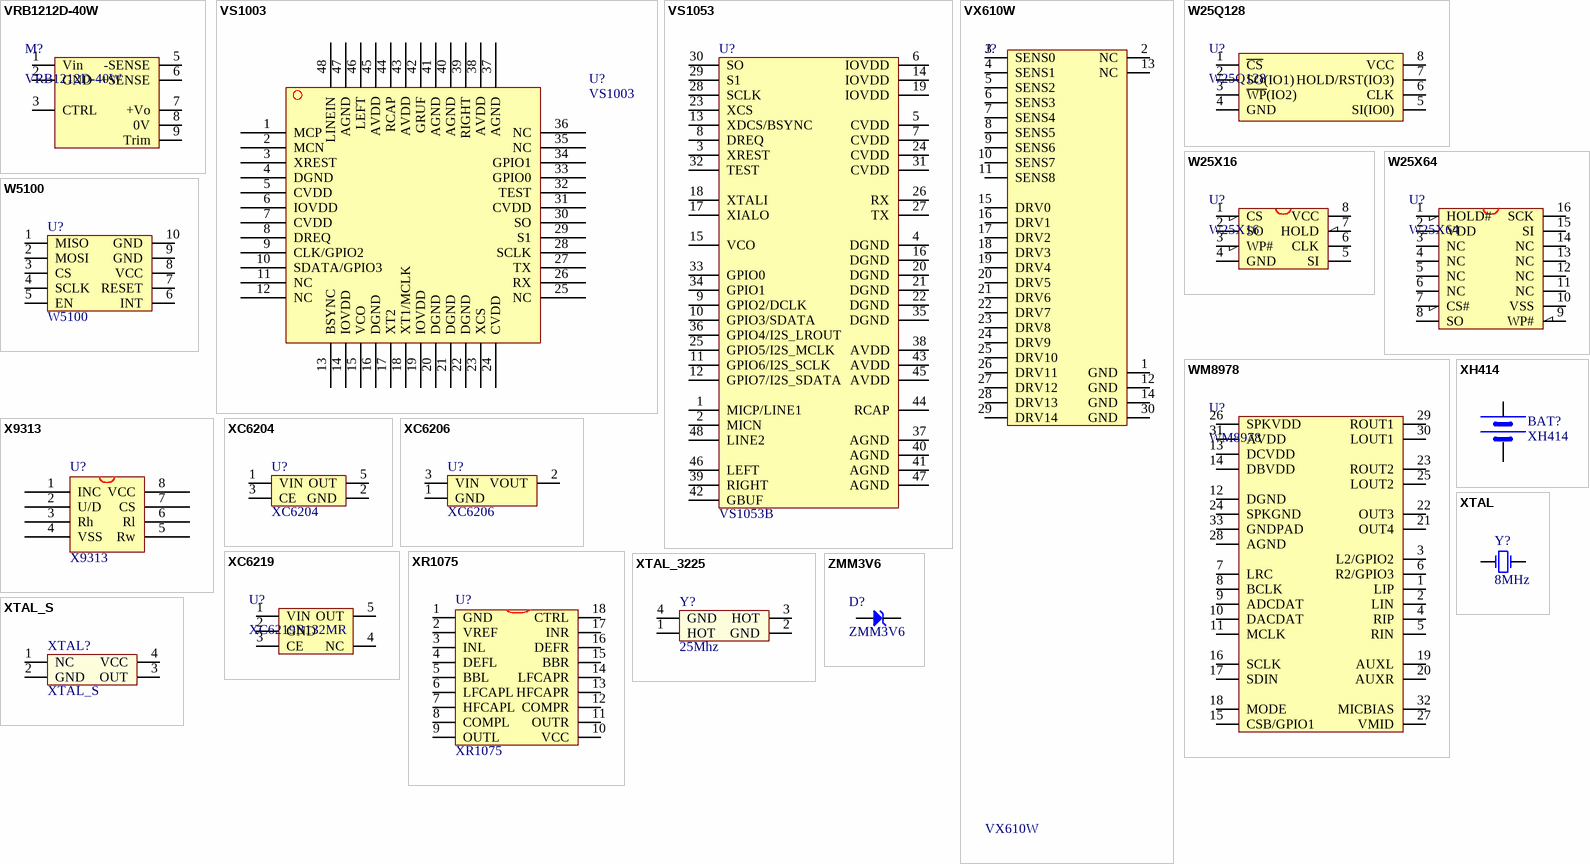
[diagram p20: symbols VRB1212D-40W to ZMM3V6]

## VRB1212D-40W
designator M?
footprint VRB_D-40W (2'*2'*O.42')
pins: 1 Vin, 2 GND, 3 CTRL, 5 -SENSE, 6 +SENSE, 7 +Vo, 8 0V, 9 Trim

## VS1003
designator U?
footprint mTQFP48 (5.8mm)
pins: 1 MCP, 2 MCN, 3 XREST, 4 DGND, 5 CVDD, 6 IOVDD, 7 CVDD, 8 DREQ, 9 CLK/GPIO2, 10 SDATA/GPIO3, 11 NC, 12 NC, 13 BSYNC, 14 IOVDD, 15 VCO, 16 DGND, 17 XT2, 18 XT1/MCLK, 19 IOVDD, 20 DGND, 21 DGND, 22 DGND, 23 XCS, 24 CVDD, 25 NC, 26 RX, 27 TX, 28 SCLK, 29 S1, 30 SO, 31 CVDD, 32 TEST, 33 GPIO0, 34 GPIO1, 35 NC, 36 NC, 37 AGND, 38 AVDD, 39 RIGHT, 40 AGND, 41 AGND, 42 GRUF, 43 AVDD, 44 RCAP, 45 AVDD, 46 LEFT, 47 AGND, 48 LINEIN

## VS1053
designator U?, comment VS1053B
footprint mTQFP48 (5.8mm)
pins: 1 MICP/LINE1, 2 MICN, 3 XREST, 4 DGND, 5 CVDD, 6 IOVDD, 7 CVDD, 8 DREQ, 9 GPIO2/DCLK, 10 GPIO3/SDATA, 11 GPIO6/I2S_SCLK, 12 GPIO7/I2S_SDATA, 13 XDCS/BSYNC, 14 IOVDD, 15 VCO, 16 DGND, 17 XIALO, 18 XTALI, 19 IOVDD, 20 DGND, 21 DGND, 22 DGND, 23 XCS, 24 CVDD, 25 GPIO5/I2S_MCLK, 26 RX, 27 TX, 28 SCLK, 29 S1, 30 SO, 31 CVDD, 32 TEST, 33 GPIO0, 34 GPIO1, 35 DGND, 36 GPIO4/I2S_LROUT, 37 AGND, 38 AVDD, 39 RIGHT, 40 AGND, 41 AGND, 42 GBUF, 43 AVDD, 44 RCAP, 45 AVDD, 46 LEFT, 47 AGND, 48 LINE2

## VX610W
designator J?
7' 电容触摸屏
footprint FPC50
footprint FPC-TOP30 (FPCTOP;0.5mm;)
pins: 1 GND, 2 NC, 3 SENS0, 4 SENS1, 5 SENS2, 6 SENS3, 7 SENS4, 8 SENS5, 9 SENS6, 10 SENS7, 11 SENS8, 12 GND, 13 NC, 14 GND, 15 DRV0, 16 DRV1, 17 DRV2, 18 DRV3, 19 DRV4, 20 DRV5, 21 DRV6, 22 DRV7, 23 DRV8, 24 DRV9, 25 DRV10, 26 DRV11, 27 DRV12, 28 DRV13, 29 DRV14, 30 GND
2 alternate drawings of the same symbol

## W25Q128
designator U?
footprint SOIC-8 (SOIC)
footprint WSON8 (WSON8 8-Leads, Body 6.1x8.1mm (max), Pitch 1.27mm, IPC Medium Density)
pins: 1 ~{CS}, 2 SO(IO1), 3 ~{WP}(IO2), 4 GND, 5 SI(IO0) (power), 6 CLK, 7 HOLD/RST(IO3) (power), 8 VCC

## W25X16
designator U?
W25X16;SST25VF016;MX25L1605
footprint SOIC-8 (SOIC)
pins: 1 CS, 2 SO, 3 WP#, 4 GND, 5 SI, 6 CLK, 7 HOLD, 8 VCC

## W25X64
designator U?
W25X64;SST25VF064;MX25L6405;
footprint SOIC-16W (SIZE:10mm*10.8mm;PIN:1.27mm;)
pins: 1 HOLD#, 2 VDD, 3 NC, 4 NC, 5 NC, 6 NC, 7 CS#, 8 SO, 9 WP#, 10 VSS, 11 NC, 12 NC, 13 NC, 14 NC, 15 SI, 16 SCK

## W5100
designator U?
footprint W5100NET (NET_FOOT)
pins: 1 MISO, 2 MOSI, 3 CS, 4 SCLK, 5 EN, 6 INT, 7 RESET, 8 VCC, 9 GND, 10 GND

## WM8978
designator U?
24bit ADC&DAC
footprint qfn32 (QFN, 32-Leads, Body 5.0x5.0mm (max), Pitch 0.50mm, IPC Medium Density)
pins: 1 LIP, 2 LIN, 3 L2/GPIO2, 4 RIP, 5 RIN, 6 R2/GPIO3, 7 LRC, 8 BCLK, 9 ADCDAT, 10 DACDAT, 11 MCLK, 12 DGND, 13 DCVDD, 14 DBVDD, 15 CSB/GPIO1, 16 SCLK, 17 SDIN, 18 MODE, 19 AUXL, 20 AUXR, 21 OUT4, 22 OUT3, 23 ROUT2, 24 SPKGND, 25 LOUT2, 26 SPKVDD, 27 VMID, 28 AGND, 29 ROUT1, 30 LOUT1, 31 AVDD, 32 MICBIAS, 33 GNDPAD

## X9313
designator U?
footprint DIP-8 (DIP; 8 Leads; Row Spacing 7.62 mm; Pitch 2.54 mm)
pins: 1 INC, 2 U/D, 3 Rh, 4 VSS, 5 Rw, 6 Rl, 7 CS, 8 VCC

## XC6204
designator U?
footprint SOT-23-5
pins: 1 VIN, 2 GND, 3 CE, 5 OUT

## XC6206
designator U?
LDO,SOT23,1.2~5.0V
footprint SOT-23 (SOT-23; 3 Leads; Body 3.0 x 2.5 mm, inc. leads (LxW max))
pins: 1 GND, 2 VOUT, 3 VIN

## XC6219
designator U?, comment XC6219B132MR
footprint SOT-23-5
pins: 1 VIN, 2 GND, 3 CE, 4 NC, 5 OUT

## XH414
designator BAT?
XH414 IV01E
footprint XH414 (BATTERY)
footprint BAT (BATTERY)
pins: 1 VCC, 2 GND

## XR1075
designator U?
footprint DIP18 (DIP-18)
pins: 1 GND, 2 VREF, 3 INL, 4 DEFL, 5 BBL, 6 LFCAPL, 7 HFCAPL, 8 COMPL, 9 OUTL, 10 VCC, 11 OUTR, 12 COMPR, 13 HFCAPR, 14 LFCAPR, 15 BBR, 16 DEFR, 17 INR, 18 CTRL

## XTAL
designator Y?, comment 8MHz
普通晶振; Published: 8-Jun-2000; LatestRevisionDate: 17-Jul-2002; LatestRevisionNote: Re-released for DXP Platform.; Publisher: Altium Limited
footprint XTAL_US
footprint XTAL32
footprint XTAL3215 (3.2mm*1.5mm)
pins: 1 OSC1, 2 OSC2

## XTAL_3225
designator Y?, comment 25Mhz
3225贴片无源晶振
footprint XTAL3225 (3.2mm*2.5mm)
pins: 1 HOT, 2 GND, 3 HOT, 4 GND

## XTAL_S
designator XTAL?
有源晶振
footprint XTAL_S (XTAL_OSC)
footprint XTAL3225 (3.2mm*2.5mm)
footprint xtal7050 (7mm*5mm)
pins: 1 NC, 2 GND, 3 OUT, 4 VCC

## ZMM3V6
designator D?
footprint DIODE_ZMMx (ZMM3V6)
pins: 1, 2